# Altium integrated library Lattice CPLD ispMACH.IntLib: 663 symbols (part 9 of 48)
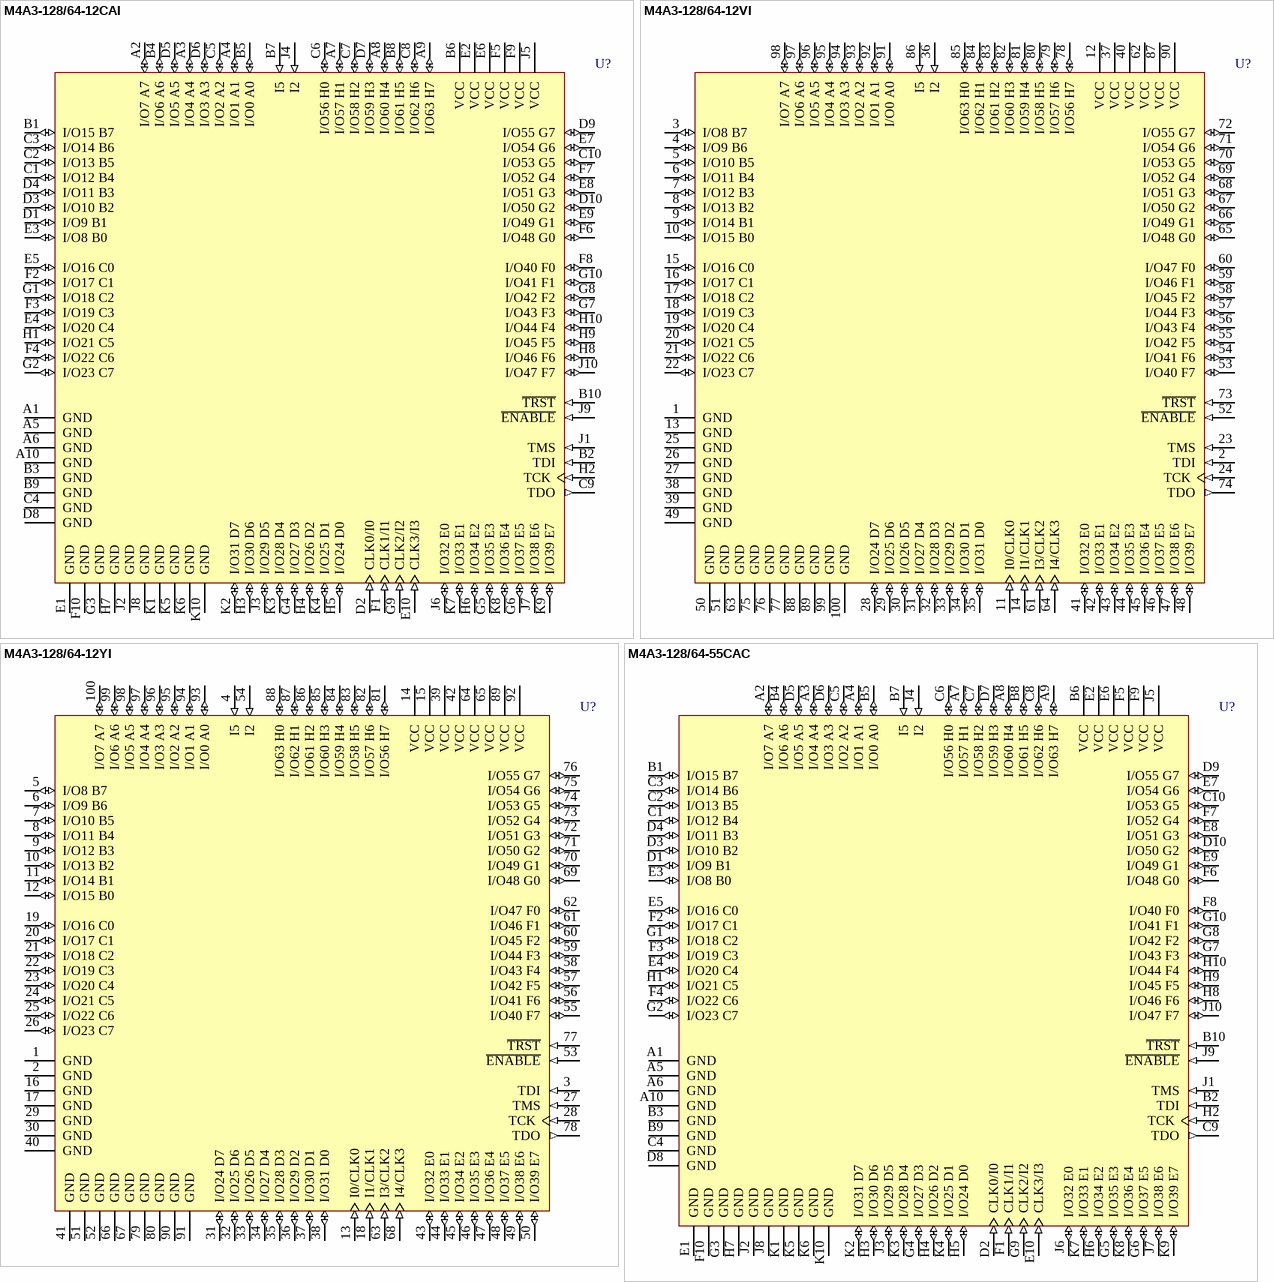
[diagram p314: symbols M4A3-128/64-12CAI to M4A3-128/64-55CAC]

## M4A3-128/64-12CAI
designator U?
High-Performance EE CMOS In-System Programmable Logic; Published: 17-Jul-2002; LatestRevisionDate: 13-Apr-2006; LatestRevisionNote: IPC-7351 Footprint Added.; DatasheetVersion: Feb-2001; PackageVersion: pkg_32, Aug-2005; PackageReference: CaBGA100; Publisher: Altium Limited; PackageDescription: 100-Ball Chip Array Ball Grid Array (caBGA100); ComponentLink1Description: Manufacturer Link; ComponentLink1URL: http://www.latticesemi.com/products/mature/index.cfm; ComponentLink2Description: Datasheet; ComponentLink2URL: http://www.latticesemi.com/account/_download.cfm?AMID=1344
footprint caBGA100 (BGA, 100-Leads, Body 10x10mm, Pitch 0.8mm)
3D model M4A3-CaBGA100 (100-Ball Chip Array Ball Grid Array (caBGA100))
pins: A1 GND (power), A2 I/O7 A7 (io), A3 I/O4 A4 (io), A4 I/O1 A1 (io), A5 GND (power), A6 GND (power), A7 I/O57 H1 (io), A8 I/O60 H4 (io), A9 I/O63 H7 (io), A10 GND (power), B1 I/O15 B7 (io), B2 TDI (in), B3 GND (power), B4 I/O6 A6 (io), B5 I/O0 A0 (io), B6 VCC (power), B7 I5 (in), B8 I/O61 H5 (io), B9 GND (power), B10 ~{TRST} (in), C1 I/O12 B4 (io), C2 I/O13 B5 (io), C3 I/O14 B6 (io), C4 GND (power), C5 I/O2 A2 (io), C6 I/O56 H0 (io), C7 I/O58 H2 (io), C8 I/O62 H6 (io), C9 TDO (out), C10 I/O53 G5 (io), D1 I/O9 B1 (io), D2 CLK0/I0 (in), D3 I/O10 B2 (io), D4 I/O11 B3 (io), D5 I/O5 A5 (io), D6 I/O3 A3 (io), D7 I/O59 H3 (io), D8 GND (power), D9 I/O55 G7 (io), D10 I/O50 G2 (io), E1 GND (power), E2 VCC (power), E3 I/O8 B0 (io), E4 I/O20 C4 (io), E5 I/O16 C0 (io), E6 VCC (power), E7 I/O54 G6 (io), E8 I/O51 G3 (io), E9 I/O49 G1 (io), E10 CLK3/I3 (in), F1 CLK1/I1 (in), F2 I/O17 C1 (io), F3 I/O19 C3 (io), F4 I/O22 C6 (io), F5 VCC (power), F6 I/O48 G0 (io), F7 I/O52 G4 (io), F8 I/O40 F0 (io), F9 VCC (power), F10 GND (power), G1 I/O18 C2 (io), G2 I/O23 C7 (io), G3 GND (power), G4 I/O27 D3 (io), G5 I/O35 E3 (io), G6 I/O37 E5 (io), G7 I/O43 F3 (io), G8 I/O42 F2 (io), G9 CLK2/I2 (in), G10 I/O41 F1 (io), H1 I/O21 C5 (io), H2 TCK (in), H3 I/O30 D6 (io), H4 I/O26 D2 (io), H5 I/O24 D0 (io), H6 I/O34 E2 (io), H7 GND (power), H8 I/O46 F6 (io), H9 I/O45 F5 (io), H10 I/O44 F4 (io), J1 TMS (in), J2 GND (power), J3 I/O29 D5 (io), J4 I2 (in), J5 VCC (power), J6 I/O32 E0 (io), J7 I/O38 E6 (io), J8 GND (power), J9 ~{ENABLE} (in), J10 I/O47 F7 (io), K1 GND (power), K2 I/O31 D7 (io), K3 I/O28 D4 (io), K4 I/O25 D1 (io), K5 GND (power), K6 GND (power), K7 I/O33 E1 (io), K8 I/O36 E4 (io), K9 I/O39 E7 (io), K10 GND (power)

## M4A3-128/64-12VI
designator U?
High-Performance EE CMOS In-System Programmable Logic; Published: 17-Jul-2002; LatestRevisionDate: 13-Apr-2006; LatestRevisionNote: IPC-7351 Footprint Added.; DatasheetVersion: Feb-2001; PackageVersion: pkg_32, Aug-2005; PackageReference: TQFP100; Publisher: Altium Limited; PackageDescription: 100-Pin Thin Quad Flat Pack (TQFP100); Code_JEDEC: MS-026-BED; ComponentLink1Description: Manufacturer Link; ComponentLink1URL: http://www.latticesemi.com/products/mature/index.cfm; ComponentLink2Description: Datasheet; ComponentLink2URL: http://www.latticesemi.com/account/_download.cfm?AMID=1344
footprint TQFP100_N (Thin QFP, 100-Leads, Body 14x14mm, Pitch 0.5mm, IPC Medium Density)
footprint TQFP100_L (Thin QFP, 100-Leads, Body 14x14mm, Pitch 0.5mm, IPC High Density)
footprint TQFP100_M (Thin QFP, 100-Leads, Body 14x14mm, Pitch 0.5mm, IPC Low Density)
3D model M4A3-TQFP100 (100-Pin Thin Quad Flat Pack (TQFP100))
pins: 1 GND (power), 2 TDI (in), 3 I/O8 B7 (io), 4 I/O9 B6 (io), 5 I/O10 B5 (io), 6 I/O11 B4 (io), 7 I/O12 B3 (io), 8 I/O13 B2 (io), 9 I/O14 B1 (io), 10 I/O15 B0 (io), 11 I0/CLK0 (in), 12 VCC (power), 13 GND (power), 14 I1/CLK1 (in), 15 I/O16 C0 (io), 16 I/O17 C1 (io), 17 I/O18 C2 (io), 18 I/O19 C3 (io), 19 I/O20 C4 (io), 20 I/O21 C5 (io), 21 I/O22 C6 (io), 22 I/O23 C7 (io), 23 TMS (in), 24 TCK (in), 25 GND (power), 26 GND (power), 27 GND (power), 28 I/O24 D7 (io), 29 I/O25 D6 (io), 30 I/O26 D5 (io), 31 I/O27 D4 (io), 32 I/O28 D3 (io), 33 I/O29 D2 (io), 34 I/O30 D1 (io), 35 I/O31 D0 (io), 36 I2 (in), 37 VCC (power), 38 GND (power), 39 GND (power), 40 VCC (power), 41 I/O32 E0 (io), 42 I/O33 E1 (io), 43 I/O34 E2 (io), 44 I/O35 E3 (io), 45 I/O36 E4 (io), 46 I/O37 E5 (io), 47 I/O38 E6 (io), 48 I/O39 E7 (io), 49 GND (power), 50 GND (power), 51 GND (power), 52 ~{ENABLE} (in), 53 I/O40 F7 (io), 54 I/O41 F6 (io), 55 I/O42 F5 (io), 56 I/O43 F4 (io), 57 I/O44 F3 (io), 58 I/O45 F2 (io), 59 I/O46 F1 (io), 60 I/O47 F0 (io), 61 I3/CLK2 (in), 62 VCC (power), 63 GND (power), 64 I4/CLK3 (in), 65 I/O48 G0 (io), 66 I/O49 G1 (io), 67 I/O50 G2 (io), 68 I/O51 G3 (io), 69 I/O52 G4 (io), 70 I/O53 G5 (io), 71 I/O54 G6 (io), 72 I/O55 G7 (io), 73 ~{TRST} (in), 74 TDO (out), 75 GND (power), 76 GND (power), 77 GND (power), 78 I/O56 H7 (io), 79 I/O57 H6 (io), 80 I/O58 H5 (io), 81 I/O59 H4 (io), 82 I/O60 H3 (io), 83 I/O61 H2 (io), 84 I/O62 H1 (io), 85 I/O63 H0 (io), 86 I5 (in), 87 VCC (power), 88 GND (power), 89 GND (power), 90 VCC (power), 91 I/O0 A0 (io), 92 I/O1 A1 (io), 93 I/O2 A2 (io), 94 I/O3 A3 (io), 95 I/O4 A4 (io), 96 I/O5 A5 (io), 97 I/O6 A6 (io), 98 I/O7 A7 (io), 99 GND (power), 100 GND (power)

## M4A3-128/64-12YI
designator U?
High-Performance EE CMOS In-System Programmable Logic; Published: 17-Jul-2002; LatestRevisionDate: 13-Apr-2006; LatestRevisionNote: IPC-7351 Footprint Added.; DatasheetVersion: Feb-2001; PackageVersion: pkg_32, Aug-2005; PackageReference: PQFP100; Publisher: Altium Limited; PackageDescription: 100-Pin Quad Flat Pack Rectangular 0.65 mm Pitch; Code_IPC: QFP65P1720X2320-100; ComponentLink1Description: Manufacturer Link; ComponentLink1URL: http://www.latticesemi.com/products/mature/index.cfm; ComponentLink2Description: Datasheet; ComponentLink2URL: http://www.latticesemi.com/account/_download.cfm?AMID=1344
footprint PQFP100_N (QFP, 100-Leads, Body 20x14mm, Pitch 0.65mm, IPC Medium Density)
footprint PQFP100_L (QFP, 100-Leads, Body 20x14mm, Pitch 0.65mm, IPC High Density)
footprint PQFP100_M (QFP, 100-Leads, Body 20x14mm, Pitch 0.65mm, IPC Low Density)
3D model PQFP-100 (100-Pin Quad Flat Pack Rectangular 0.65 mm Pitch)
pins: 1 GND (power), 2 GND (power), 3 TDI (in), 4 I5 (in), 5 I/O8 B7 (io), 6 I/O9 B6 (io), 7 I/O10 B5 (io), 8 I/O11 B4 (io), 9 I/O12 B3 (io), 10 I/O13 B2 (io), 11 I/O14 B1 (io), 12 I/O15 B0 (io), 13 I0/CLK0 (in), 14 VCC (power), 15 VCC (power), 16 GND (power), 17 GND (power), 18 I1/CLK1 (in), 19 I/O16 C0 (io), 20 I/O17 C1 (io), 21 I/O18 C2 (io), 22 I/O19 C3 (io), 23 I/O20 C4 (io), 24 I/O21 C5 (io), 25 I/O22 C6 (io), 26 I/O23 C7 (io), 27 TMS (in), 28 TCK (in), 29 GND (power), 30 GND (power), 31 I/O24 D7 (io), 32 I/O25 D6 (io), 33 I/O26 D5 (io), 34 I/O27 D4 (io), 35 I/O28 D3 (io), 36 I/O29 D2 (io), 37 I/O30 D1 (io), 38 I/O31 D0 (io), 39 VCC (power), 40 GND (power), 41 GND (power), 42 VCC (power), 43 I/O32 E0 (io), 44 I/O33 E1 (io), 45 I/O34 E2 (io), 46 I/O35 E3 (io), 47 I/O36 E4 (io), 48 I/O37 E5 (io), 49 I/O38 E6 (io), 50 I/O39 E7 (io), 51 GND (power), 52 GND (power), 53 ~{ENABLE} (in), 54 I2 (in), 55 I/O40 F7 (io), 56 I/O41 F6 (io), 57 I/O42 F5 (io), 58 I/O43 F4 (io), 59 I/O44 F3 (io), 60 I/O45 F2 (io), 61 I/O46 F1 (io), 62 I/O47 F0 (io), 63 I3/CLK2 (in), 64 VCC (power), 65 VCC (power), 66 GND (power), 67 GND (power), 68 I4/CLK3 (in), 69 I/O48 G0 (io), 70 I/O49 G1 (io), 71 I/O50 G2 (io), 72 I/O51 G3 (io), 73 I/O52 G4 (io), 74 I/O53 G5 (io), 75 I/O54 G6 (io), 76 I/O55 G7 (io), 77 ~{TRST} (in), 78 TDO (out), 79 GND (power), 80 GND (power), 81 I/O56 H7 (io), 82 I/O57 H6 (io), 83 I/O58 H5 (io), 84 I/O59 H4 (io), 85 I/O60 H3 (io), 86 I/O61 H2 (io), 87 I/O62 H1 (io), 88 I/O63 H0 (io), 89 VCC (power), 90 GND (power), 91 GND (power), 92 VCC (power), 93 I/O0 A0 (io), 94 I/O1 A1 (io), 95 I/O2 A2 (io), 96 I/O3 A3 (io), 97 I/O4 A4 (io), 98 I/O5 A5 (io), 99 I/O6 A6 (io), 100 I/O7 A7 (io)

## M4A3-128/64-55CAC
designator U?
High-Performance EE CMOS In-System Programmable Logic; Published: 17-Jul-2002; LatestRevisionDate: 13-Apr-2006; LatestRevisionNote: IPC-7351 Footprint Added.; DatasheetVersion: Feb-2001; PackageVersion: pkg_32, Aug-2005; PackageReference: CaBGA100; Publisher: Altium Limited; PackageDescription: 100-Ball Chip Array Ball Grid Array (caBGA100); ComponentLink1Description: Manufacturer Link; ComponentLink1URL: http://www.latticesemi.com/products/mature/index.cfm; ComponentLink2Description: Datasheet; ComponentLink2URL: http://www.latticesemi.com/account/_download.cfm?AMID=1344
footprint caBGA100 (BGA, 100-Leads, Body 10x10mm, Pitch 0.8mm)
3D model M4A3-CaBGA100 (100-Ball Chip Array Ball Grid Array (caBGA100))
pins: A1 GND (power), A2 I/O7 A7 (io), A3 I/O4 A4 (io), A4 I/O1 A1 (io), A5 GND (power), A6 GND (power), A7 I/O57 H1 (io), A8 I/O60 H4 (io), A9 I/O63 H7 (io), A10 GND (power), B1 I/O15 B7 (io), B2 TDI (in), B3 GND (power), B4 I/O6 A6 (io), B5 I/O0 A0 (io), B6 VCC (power), B7 I5 (in), B8 I/O61 H5 (io), B9 GND (power), B10 ~{TRST} (in), C1 I/O12 B4 (io), C2 I/O13 B5 (io), C3 I/O14 B6 (io), C4 GND (power), C5 I/O2 A2 (io), C6 I/O56 H0 (io), C7 I/O58 H2 (io), C8 I/O62 H6 (io), C9 TDO (out), C10 I/O53 G5 (io), D1 I/O9 B1 (io), D2 CLK0/I0 (in), D3 I/O10 B2 (io), D4 I/O11 B3 (io), D5 I/O5 A5 (io), D6 I/O3 A3 (io), D7 I/O59 H3 (io), D8 GND (power), D9 I/O55 G7 (io), D10 I/O50 G2 (io), E1 GND (power), E2 VCC (power), E3 I/O8 B0 (io), E4 I/O20 C4 (io), E5 I/O16 C0 (io), E6 VCC (power), E7 I/O54 G6 (io), E8 I/O51 G3 (io), E9 I/O49 G1 (io), E10 CLK3/I3 (in), F1 CLK1/I1 (in), F2 I/O17 C1 (io), F3 I/O19 C3 (io), F4 I/O22 C6 (io), F5 VCC (power), F6 I/O48 G0 (io), F7 I/O52 G4 (io), F8 I/O40 F0 (io), F9 VCC (power), F10 GND (power), G1 I/O18 C2 (io), G2 I/O23 C7 (io), G3 GND (power), G4 I/O27 D3 (io), G5 I/O35 E3 (io), G6 I/O37 E5 (io), G7 I/O43 F3 (io), G8 I/O42 F2 (io), G9 CLK2/I2 (in), G10 I/O41 F1 (io), H1 I/O21 C5 (io), H2 TCK (in), H3 I/O30 D6 (io), H4 I/O26 D2 (io), H5 I/O24 D0 (io), H6 I/O34 E2 (io), H7 GND (power), H8 I/O46 F6 (io), H9 I/O45 F5 (io), H10 I/O44 F4 (io), J1 TMS (in), J2 GND (power), J3 I/O29 D5 (io), J4 I2 (in), J5 VCC (power), J6 I/O32 E0 (io), J7 I/O38 E6 (io), J8 GND (power), J9 ~{ENABLE} (in), J10 I/O47 F7 (io), K1 GND (power), K2 I/O31 D7 (io), K3 I/O28 D4 (io), K4 I/O25 D1 (io), K5 GND (power), K6 GND (power), K7 I/O33 E1 (io), K8 I/O36 E4 (io), K9 I/O39 E7 (io), K10 GND (power)

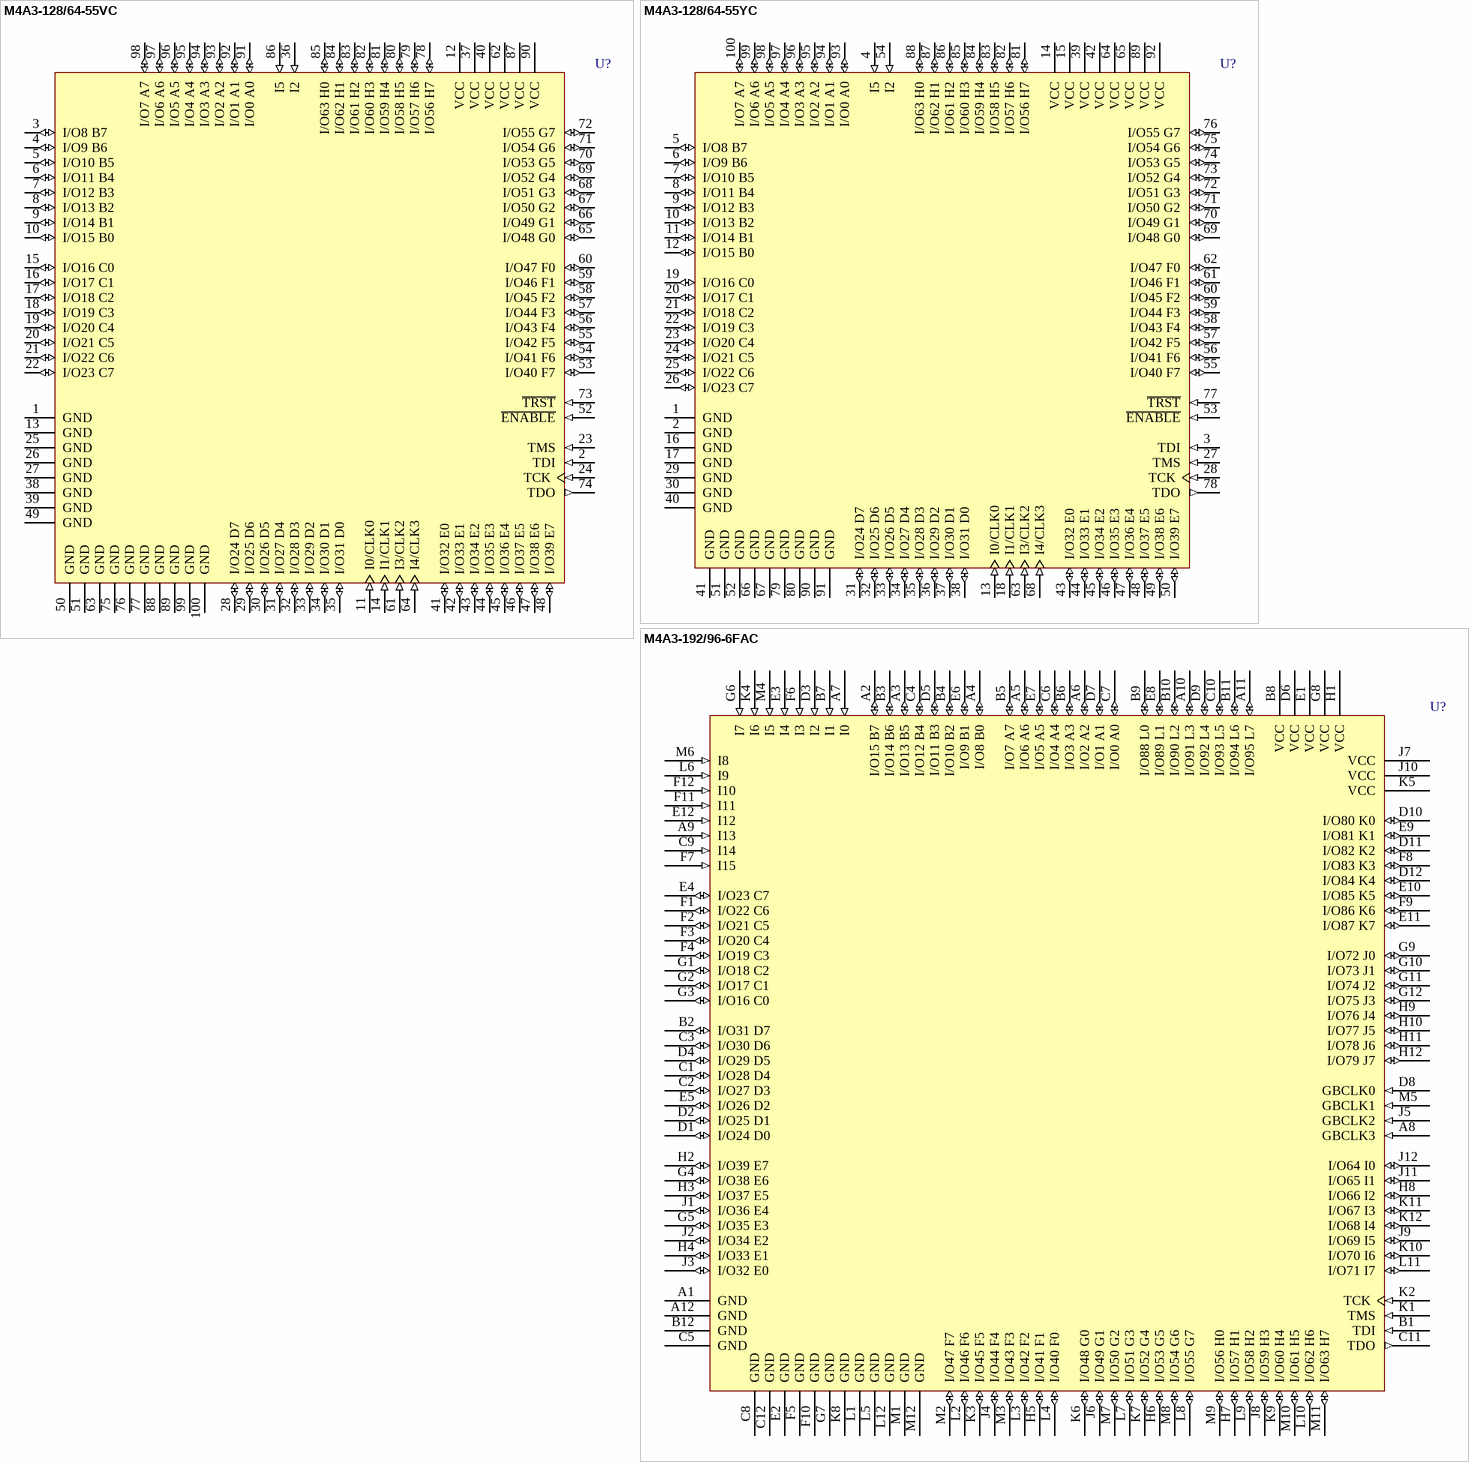
[diagram p36: symbols M4A3-128/64-55VC to M4A3-192/96-6FAC]

## M4A3-128/64-55VC
designator U?
High-Performance EE CMOS In-System Programmable Logic; Published: 17-Jul-2002; LatestRevisionDate: 13-Apr-2006; LatestRevisionNote: IPC-7351 Footprint Added.; DatasheetVersion: Feb-2001; PackageVersion: pkg_32, Aug-2005; PackageReference: TQFP100; Publisher: Altium Limited; PackageDescription: 100-Pin Thin Quad Flat Pack (TQFP100); Code_JEDEC: MS-026-BED; ComponentLink1Description: Manufacturer Link; ComponentLink1URL: http://www.latticesemi.com/products/mature/index.cfm; ComponentLink2Description: Datasheet; ComponentLink2URL: http://www.latticesemi.com/account/_download.cfm?AMID=1344
footprint TQFP100_N (Thin QFP, 100-Leads, Body 14x14mm, Pitch 0.5mm, IPC Medium Density)
footprint TQFP100_L (Thin QFP, 100-Leads, Body 14x14mm, Pitch 0.5mm, IPC High Density)
footprint TQFP100_M (Thin QFP, 100-Leads, Body 14x14mm, Pitch 0.5mm, IPC Low Density)
3D model M4A3-TQFP100 (100-Pin Thin Quad Flat Pack (TQFP100))
pins: 1 GND (power), 2 TDI (in), 3 I/O8 B7 (io), 4 I/O9 B6 (io), 5 I/O10 B5 (io), 6 I/O11 B4 (io), 7 I/O12 B3 (io), 8 I/O13 B2 (io), 9 I/O14 B1 (io), 10 I/O15 B0 (io), 11 I0/CLK0 (in), 12 VCC (power), 13 GND (power), 14 I1/CLK1 (in), 15 I/O16 C0 (io), 16 I/O17 C1 (io), 17 I/O18 C2 (io), 18 I/O19 C3 (io), 19 I/O20 C4 (io), 20 I/O21 C5 (io), 21 I/O22 C6 (io), 22 I/O23 C7 (io), 23 TMS (in), 24 TCK (in), 25 GND (power), 26 GND (power), 27 GND (power), 28 I/O24 D7 (io), 29 I/O25 D6 (io), 30 I/O26 D5 (io), 31 I/O27 D4 (io), 32 I/O28 D3 (io), 33 I/O29 D2 (io), 34 I/O30 D1 (io), 35 I/O31 D0 (io), 36 I2 (in), 37 VCC (power), 38 GND (power), 39 GND (power), 40 VCC (power), 41 I/O32 E0 (io), 42 I/O33 E1 (io), 43 I/O34 E2 (io), 44 I/O35 E3 (io), 45 I/O36 E4 (io), 46 I/O37 E5 (io), 47 I/O38 E6 (io), 48 I/O39 E7 (io), 49 GND (power), 50 GND (power), 51 GND (power), 52 ~{ENABLE} (in), 53 I/O40 F7 (io), 54 I/O41 F6 (io), 55 I/O42 F5 (io), 56 I/O43 F4 (io), 57 I/O44 F3 (io), 58 I/O45 F2 (io), 59 I/O46 F1 (io), 60 I/O47 F0 (io), 61 I3/CLK2 (in), 62 VCC (power), 63 GND (power), 64 I4/CLK3 (in), 65 I/O48 G0 (io), 66 I/O49 G1 (io), 67 I/O50 G2 (io), 68 I/O51 G3 (io), 69 I/O52 G4 (io), 70 I/O53 G5 (io), 71 I/O54 G6 (io), 72 I/O55 G7 (io), 73 ~{TRST} (in), 74 TDO (out), 75 GND (power), 76 GND (power), 77 GND (power), 78 I/O56 H7 (io), 79 I/O57 H6 (io), 80 I/O58 H5 (io), 81 I/O59 H4 (io), 82 I/O60 H3 (io), 83 I/O61 H2 (io), 84 I/O62 H1 (io), 85 I/O63 H0 (io), 86 I5 (in), 87 VCC (power), 88 GND (power), 89 GND (power), 90 VCC (power), 91 I/O0 A0 (io), 92 I/O1 A1 (io), 93 I/O2 A2 (io), 94 I/O3 A3 (io), 95 I/O4 A4 (io), 96 I/O5 A5 (io), 97 I/O6 A6 (io), 98 I/O7 A7 (io), 99 GND (power), 100 GND (power)

## M4A3-128/64-55YC
designator U?
High-Performance EE CMOS In-System Programmable Logic; Published: 17-Jul-2002; LatestRevisionDate: 13-Apr-2006; LatestRevisionNote: IPC-7351 Footprint Added.; DatasheetVersion: Feb-2001; PackageVersion: pkg_32, Aug-2005; PackageReference: PQFP100; Publisher: Altium Limited; PackageDescription: 100-Pin Quad Flat Pack Rectangular 0.65 mm Pitch; Code_IPC: QFP65P1720X2320-100; ComponentLink1Description: Manufacturer Link; ComponentLink1URL: http://www.latticesemi.com/products/mature/index.cfm; ComponentLink2Description: Datasheet; ComponentLink2URL: http://www.latticesemi.com/account/_download.cfm?AMID=1344
footprint PQFP100_N (QFP, 100-Leads, Body 20x14mm, Pitch 0.65mm, IPC Medium Density)
footprint PQFP100_L (QFP, 100-Leads, Body 20x14mm, Pitch 0.65mm, IPC High Density)
footprint PQFP100_M (QFP, 100-Leads, Body 20x14mm, Pitch 0.65mm, IPC Low Density)
3D model PQFP-100 (100-Pin Quad Flat Pack Rectangular 0.65 mm Pitch)
pins: 1 GND (power), 2 GND (power), 3 TDI (in), 4 I5 (in), 5 I/O8 B7 (io), 6 I/O9 B6 (io), 7 I/O10 B5 (io), 8 I/O11 B4 (io), 9 I/O12 B3 (io), 10 I/O13 B2 (io), 11 I/O14 B1 (io), 12 I/O15 B0 (io), 13 I0/CLK0 (in), 14 VCC (power), 15 VCC (power), 16 GND (power), 17 GND (power), 18 I1/CLK1 (in), 19 I/O16 C0 (io), 20 I/O17 C1 (io), 21 I/O18 C2 (io), 22 I/O19 C3 (io), 23 I/O20 C4 (io), 24 I/O21 C5 (io), 25 I/O22 C6 (io), 26 I/O23 C7 (io), 27 TMS (in), 28 TCK (in), 29 GND (power), 30 GND (power), 31 I/O24 D7 (io), 32 I/O25 D6 (io), 33 I/O26 D5 (io), 34 I/O27 D4 (io), 35 I/O28 D3 (io), 36 I/O29 D2 (io), 37 I/O30 D1 (io), 38 I/O31 D0 (io), 39 VCC (power), 40 GND (power), 41 GND (power), 42 VCC (power), 43 I/O32 E0 (io), 44 I/O33 E1 (io), 45 I/O34 E2 (io), 46 I/O35 E3 (io), 47 I/O36 E4 (io), 48 I/O37 E5 (io), 49 I/O38 E6 (io), 50 I/O39 E7 (io), 51 GND (power), 52 GND (power), 53 ~{ENABLE} (in), 54 I2 (in), 55 I/O40 F7 (io), 56 I/O41 F6 (io), 57 I/O42 F5 (io), 58 I/O43 F4 (io), 59 I/O44 F3 (io), 60 I/O45 F2 (io), 61 I/O46 F1 (io), 62 I/O47 F0 (io), 63 I3/CLK2 (in), 64 VCC (power), 65 VCC (power), 66 GND (power), 67 GND (power), 68 I4/CLK3 (in), 69 I/O48 G0 (io), 70 I/O49 G1 (io), 71 I/O50 G2 (io), 72 I/O51 G3 (io), 73 I/O52 G4 (io), 74 I/O53 G5 (io), 75 I/O54 G6 (io), 76 I/O55 G7 (io), 77 ~{TRST} (in), 78 TDO (out), 79 GND (power), 80 GND (power), 81 I/O56 H7 (io), 82 I/O57 H6 (io), 83 I/O58 H5 (io), 84 I/O59 H4 (io), 85 I/O60 H3 (io), 86 I/O61 H2 (io), 87 I/O62 H1 (io), 88 I/O63 H0 (io), 89 VCC (power), 90 GND (power), 91 GND (power), 92 VCC (power), 93 I/O0 A0 (io), 94 I/O1 A1 (io), 95 I/O2 A2 (io), 96 I/O3 A3 (io), 97 I/O4 A4 (io), 98 I/O5 A5 (io), 99 I/O6 A6 (io), 100 I/O7 A7 (io)

## M4A3-192/96-6FAC
designator U?
High-Performance EE CMOS In-System Programmable Logic; Published: 17-Jul-2002; LatestRevisionDate: 13-Apr-2006; LatestRevisionNote: IPC-7351 Footprint Added.; DatasheetVersion: Feb-2001; PackageVersion: pkg_32, Aug-2005; PackageReference: fpBGA144; Publisher: Altium Limited; PackageDescription: 144-Ball Fine Pitch Ball Grid Array (fpBGA144); Code_IPC: BGA100P12X12-144; ComponentLink1Description: Manufacturer Link; ComponentLink1URL: http://www.latticesemi.com/products/mature/index.cfm; ComponentLink2Description: Datasheet; ComponentLink2URL: http://www.latticesemi.com/account/_download.cfm?AMID=1344
footprint fpBGA144 (BGA, 144-Leads, Body 13x13mm, Pitch 1mm)
3D model M4A3-fpBGA144 (144-Ball Fine Pitch Ball Grid Array (fpBGA144))
pins: A1 GND (power), A2 I/O15 B7 (io), A3 I/O13 B5 (io), A4 I/O8 B0 (io), A5 I/O6 A6 (io), A6 I/O2 A2 (io), A7 I0 (in), A8 GBCLK3 (in), A9 I13 (in), A10 I/O91 L3 (io), A11 I/O95 L7 (io), A12 GND (power), B1 TDI (in), B2 I/O31 D7 (io), B3 I/O14 B6 (io), B4 I/O10 B2 (io), B5 I/O7 A7 (io), B6 I/O3 A3 (io), B7 I1 (in), B8 VCC (power), B9 I/O88 L0 (io), B10 I/O90 L2 (io), B11 I/O94 L6 (io), B12 GND (power), C1 I/O28 D4 (io), C2 I/O27 D3 (io), C3 I/O30 D6 (io), C4 I/O12 B4 (io), C5 GND (power), C6 I/O4 A4 (io), C7 I/O0 A0 (io), C8 GND (power), C9 I14 (in), C10 I/O93 L5 (io), C11 TDO (out), C12 GND (power), D1 I/O24 D0 (io), D2 I/O25 D1 (io), D3 I2 (in), D4 I/O29 D5 (io), D5 I/O11 B3 (io), D6 VCC (power), D7 I/O1 A1 (io), D8 GBCLK0 (in), D9 I/O92 L4 (io), D10 I/O80 K0 (io), D11 I/O82 K2 (io), D12 I/O84 K4 (io), E1 VCC (power), E2 GND (power), E3 I4 (in), E4 I/O23 C7 (io), E5 I/O26 D2 (io), E6 I/O9 B1 (io), E7 I/O5 A5 (io), E8 I/O89 L1 (io), E9 I/O81 K1 (io), E10 I/O85 K5 (io), E11 I/O87 K7 (io), E12 I12 (in), F1 I/O22 C6 (io), F2 I/O21 C5 (io), F3 I/O20 C4 (io), F4 I/O19 C3 (io), F5 GND (power), F6 I3 (in), F7 I15 (in), F8 I/O83 K3 (io), F9 I/O86 K6 (io), F10 GND (power), F11 I11 (in), F12 I10 (in), G1 I/O18 C2 (io), G2 I/O17 C1 (io), G3 I/O16 C0 (io), G4 I/O38 E6 (io), G5 I/O35 E3 (io), G6 I7 (in), G7 GND (power), G8 VCC (power), G9 I/O72 J0 (io), G10 I/O73 J1 (io), G11 I/O74 J2 (io), G12 I/O75 J3 (io), H1 VCC (power), H2 I/O39 E7 (io), H3 I/O37 E5 (io), H4 I/O33 E1 (io), H5 I/O41 F1 (io), H6 I/O53 G5 (io), H7 I/O57 H1 (io), H8 I/O66 I2 (io), H9 I/O76 J4 (io), H10 I/O77 J5 (io), H11 I/O78 J6 (io), H12 I/O79 J7 (io), J1 I/O36 E4 (io), J2 I/O34 E2 (io), J3 I/O32 E0 (io), J4 I/O44 F4 (io), J5 GBCLK2 (in), J6 I/O49 G1 (io), J7 VCC (power), J8 I/O59 H3 (io), J9 I/O69 I5 (io), J10 VCC (power), J11 I/O65 I1 (io), J12 I/O64 I0 (io), K1 TMS (in), K2 TCK (in), K3 I/O45 F5 (io), K4 I6 (in), K5 VCC (power), K6 I/O48 G0 (io), K7 I/O52 G4 (io), K8 GND (power), K9 I/O60 H4 (io), K10 I/O70 I6 (io), K11 I/O67 I3 (io), K12 I/O68 I4 (io), L1 GND (power), L2 I/O46 F6 (io), L3 I/O42 F2 (io), L4 I/O40 F0 (io), L5 GND (power), L6 I9 (in), L7 I/O51 G3 (io), L8 I/O55 G7 (io), L9 I/O58 H2 (io), L10 I/O62 H6 (io), L11 I/O71 I7 (io), L12 GND (power), M1 GND (power), M2 I/O47 F7 (io), M3 I/O43 F3 (io), M4 I5 (in), M5 GBCLK1 (in), M6 I8 (in), M7 I/O50 G2 (io), M8 I/O54 G6 (io), M9 I/O56 H0 (io), M10 I/O61 H5 (io), M11 I/O63 H7 (io), M12 GND (power)

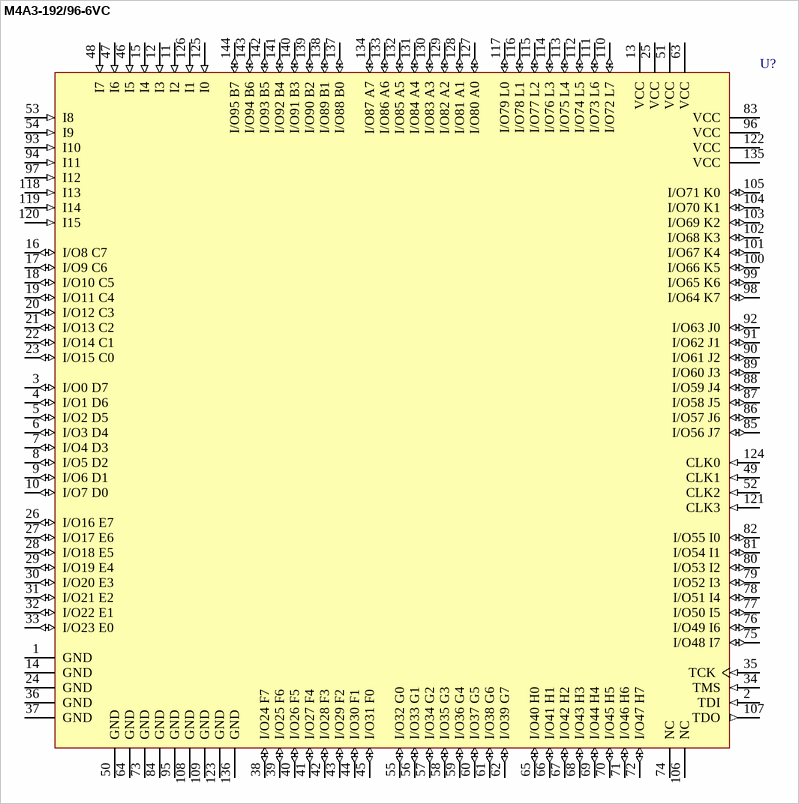
[diagram p37: symbol M4A3-192/96-6VC]

## M4A3-192/96-6VC
designator U?
High-Performance EE CMOS In-System Programmable Logic; Published: 17-Jul-2002; LatestRevisionDate: 13-Apr-2006; LatestRevisionNote: IPC-7351 Footprint Added.; DatasheetVersion: Feb-2001; PackageVersion: pkg_32, Aug-2005; PackageReference: TQFP144; Publisher: Altium Limited; PackageDescription: 144-Pin Thin Quad Flat Pack (TQFP144); Code_JEDEC: MS-026-BFB; ComponentLink1Description: Manufacturer Link; ComponentLink1URL: http://www.latticesemi.com/products/mature/index.cfm; ComponentLink2Description: Datasheet; ComponentLink2URL: http://www.latticesemi.com/account/_download.cfm?AMID=1344
footprint TQFP144_N (Thin QFP, 144-Leads, Body 20x20mm, Pitch 0.5mm, IPC Medium Density)
footprint TQFP144_L (Thin QFP, 144-Leads, Body 20x20mm, Pitch 0.5mm, IPC High Density)
footprint TQFP144_M (Thin QFP, 144-Leads, Body 20x20mm, Pitch 0.5mm, IPC Low Density)
3D model M4A3-TQFP144 (144-Pin Thin Quad Flat Pack (TQFP144))
pins: 1 GND (power), 2 TDI (in), 3 I/O0 D7 (io), 4 I/O1 D6 (io), 5 I/O2 D5 (io), 6 I/O3 D4 (io), 7 I/O4 D3 (io), 8 I/O5 D2 (io), 9 I/O6 D1 (io), 10 I/O7 D0 (io), 11 I2 (in), 12 I3 (in), 13 VCC (power), 14 GND (power), 15 I4 (in), 16 I/O8 C7 (io), 17 I/O9 C6 (io), 18 I/O10 C5 (io), 19 I/O11 C4 (io), 20 I/O12 C3 (io), 21 I/O13 C2 (io), 22 I/O14 C1 (io), 23 I/O15 C0 (io), 24 GND (power), 25 VCC (power), 26 I/O16 E7 (io), 27 I/O17 E6 (io), 28 I/O18 E5 (io), 29 I/O19 E4 (io), 30 I/O20 E3 (io), 31 I/O21 E2 (io), 32 I/O22 E1 (io), 33 I/O23 E0 (io), 34 TMS (in), 35 TCK (in), 36 GND (power), 37 GND (power), 38 I/O24 F7 (io), 39 I/O25 F6 (io), 40 I/O26 F5 (io), 41 I/O27 F4 (io), 42 I/O28 F3 (io), 43 I/O29 F2 (io), 44 I/O30 F1 (io), 45 I/O31 F0 (io), 46 I5 (in), 47 I6 (in), 48 I7 (in), 49 CLK1 (in), 50 GND (power), 51 VCC (power), 52 CLK2 (in), 53 I8 (in), 54 I9 (in), 55 I/O32 G0 (io), 56 I/O33 G1 (io), 57 I/O34 G2 (io), 58 I/O35 G3 (io), 59 I/O36 G4 (io), 60 I/O37 G5 (io), 61 I/O38 G6 (io), 62 I/O39 G7 (io), 63 VCC (power), 64 GND (power), 65 I/O40 H0 (io), 66 I/O41 H1 (io), 67 I/O42 H2 (io), 68 I/O43 H3 (io), 69 I/O44 H4 (io), 70 I/O45 H5 (io), 71 I/O46 H6 (io), 72 I/O47 H7 (io), 73 GND (power), 74 NC, 75 I/O48 I7 (io), 76 I/O49 I6 (io), 77 I/O50 I5 (io), 78 I/O51 I4 (io), 79 I/O52 I3 (io), 80 I/O53 I2 (io), 81 I/O54 I1 (io), 82 I/O55 I0 (io), 83 VCC (power), 84 GND (power), 85 I/O56 J7 (io), 86 I/O57 J6 (io), 87 I/O58 J5 (io), 88 I/O59 J4 (io), 89 I/O60 J3 (io), 90 I/O61 J2 (io), 91 I/O62 J1 (io), 92 I/O63 J0 (io), 93 I10 (in), 94 I11 (in), 95 GND (power), 96 VCC (power), 97 I12 (in), 98 I/O64 K7 (io), 99 I/O65 K6 (io), 100 I/O66 K5 (io), 101 I/O67 K4 (io), 102 I/O68 K3 (io), 103 I/O69 K2 (io), 104 I/O70 K1 (io), 105 I/O71 K0 (io), 106 NC, 107 TDO (out), 108 GND (power), 109 GND (power), 110 I/O72 L7 (io), 111 I/O73 L6 (io), 112 I/O74 L5 (io), 113 I/O75 L4 (io), 114 I/O76 L3 (io), 115 I/O77 L2 (io), 116 I/O78 L1 (io), 117 I/O79 L0 (io), 118 I13 (in), 119 I14 (in), 120 I15 (in), 121 CLK3 (in), 122 VCC (power), 123 GND (power), 124 CLK0 (in), 125 I0 (in), 126 I1 (in), 127 I/O80 A0 (io), 128 I/O81 A1 (io), 129 I/O82 A2 (io), 130 I/O83 A3 (io), 131 I/O84 A4 (io), 132 I/O85 A5 (io), 133 I/O86 A6 (io), 134 I/O87 A7 (io), 135 VCC (power), 136 GND (power), 137 I/O88 B0 (io), 138 I/O89 B1 (io), 139 I/O90 B2 (io), 140 I/O91 B3 (io), 141 I/O92 B4 (io), 142 I/O93 B5 (io), 143 I/O94 B6 (io), 144 I/O95 B7 (io)

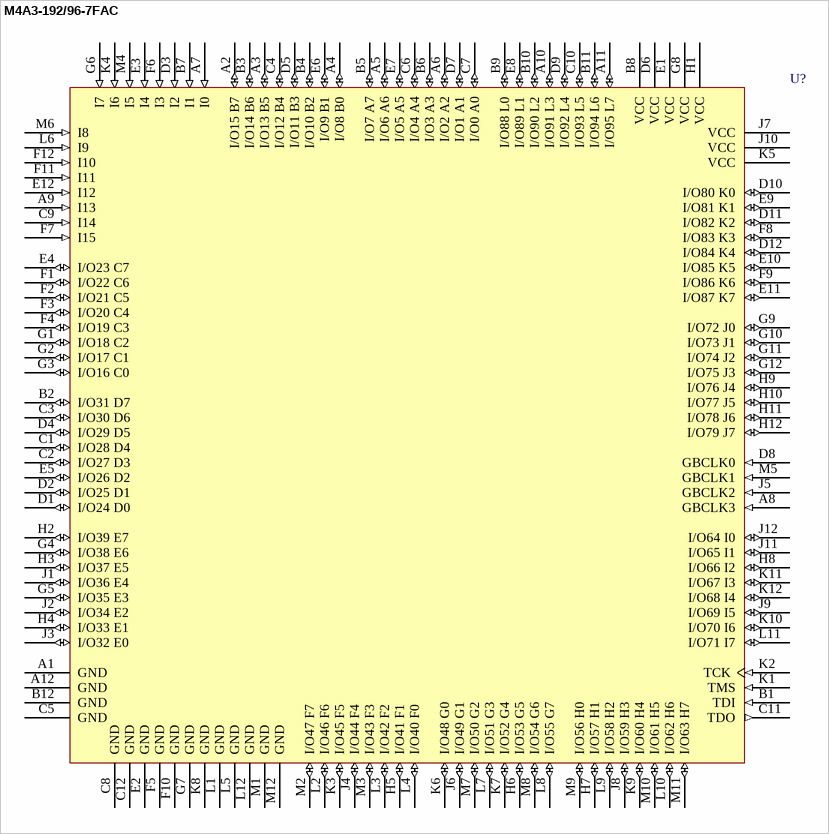
[diagram p38: symbol M4A3-192/96-7FAC]

## M4A3-192/96-7FAC
designator U?
High-Performance EE CMOS In-System Programmable Logic; Published: 17-Jul-2002; LatestRevisionDate: 13-Apr-2006; LatestRevisionNote: IPC-7351 Footprint Added.; DatasheetVersion: Feb-2001; PackageVersion: pkg_32, Aug-2005; PackageReference: fpBGA144; Publisher: Altium Limited; PackageDescription: 144-Ball Fine Pitch Ball Grid Array (fpBGA144); Code_IPC: BGA100P12X12-144; ComponentLink1Description: Manufacturer Link; ComponentLink1URL: http://www.latticesemi.com/products/mature/index.cfm; ComponentLink2Description: Datasheet; ComponentLink2URL: http://www.latticesemi.com/account/_download.cfm?AMID=1344
footprint fpBGA144 (BGA, 144-Leads, Body 13x13mm, Pitch 1mm)
3D model M4A3-fpBGA144 (144-Ball Fine Pitch Ball Grid Array (fpBGA144))
pins: A1 GND (power), A2 I/O15 B7 (io), A3 I/O13 B5 (io), A4 I/O8 B0 (io), A5 I/O6 A6 (io), A6 I/O2 A2 (io), A7 I0 (in), A8 GBCLK3 (in), A9 I13 (in), A10 I/O91 L3 (io), A11 I/O95 L7 (io), A12 GND (power), B1 TDI (in), B2 I/O31 D7 (io), B3 I/O14 B6 (io), B4 I/O10 B2 (io), B5 I/O7 A7 (io), B6 I/O3 A3 (io), B7 I1 (in), B8 VCC (power), B9 I/O88 L0 (io), B10 I/O90 L2 (io), B11 I/O94 L6 (io), B12 GND (power), C1 I/O28 D4 (io), C2 I/O27 D3 (io), C3 I/O30 D6 (io), C4 I/O12 B4 (io), C5 GND (power), C6 I/O4 A4 (io), C7 I/O0 A0 (io), C8 GND (power), C9 I14 (in), C10 I/O93 L5 (io), C11 TDO (out), C12 GND (power), D1 I/O24 D0 (io), D2 I/O25 D1 (io), D3 I2 (in), D4 I/O29 D5 (io), D5 I/O11 B3 (io), D6 VCC (power), D7 I/O1 A1 (io), D8 GBCLK0 (in), D9 I/O92 L4 (io), D10 I/O80 K0 (io), D11 I/O82 K2 (io), D12 I/O84 K4 (io), E1 VCC (power), E2 GND (power), E3 I4 (in), E4 I/O23 C7 (io), E5 I/O26 D2 (io), E6 I/O9 B1 (io), E7 I/O5 A5 (io), E8 I/O89 L1 (io), E9 I/O81 K1 (io), E10 I/O85 K5 (io), E11 I/O87 K7 (io), E12 I12 (in), F1 I/O22 C6 (io), F2 I/O21 C5 (io), F3 I/O20 C4 (io), F4 I/O19 C3 (io), F5 GND (power), F6 I3 (in), F7 I15 (in), F8 I/O83 K3 (io), F9 I/O86 K6 (io), F10 GND (power), F11 I11 (in), F12 I10 (in), G1 I/O18 C2 (io), G2 I/O17 C1 (io), G3 I/O16 C0 (io), G4 I/O38 E6 (io), G5 I/O35 E3 (io), G6 I7 (in), G7 GND (power), G8 VCC (power), G9 I/O72 J0 (io), G10 I/O73 J1 (io), G11 I/O74 J2 (io), G12 I/O75 J3 (io), H1 VCC (power), H2 I/O39 E7 (io), H3 I/O37 E5 (io), H4 I/O33 E1 (io), H5 I/O41 F1 (io), H6 I/O53 G5 (io), H7 I/O57 H1 (io), H8 I/O66 I2 (io), H9 I/O76 J4 (io), H10 I/O77 J5 (io), H11 I/O78 J6 (io), H12 I/O79 J7 (io), J1 I/O36 E4 (io), J2 I/O34 E2 (io), J3 I/O32 E0 (io), J4 I/O44 F4 (io), J5 GBCLK2 (in), J6 I/O49 G1 (io), J7 VCC (power), J8 I/O59 H3 (io), J9 I/O69 I5 (io), J10 VCC (power), J11 I/O65 I1 (io), J12 I/O64 I0 (io), K1 TMS (in), K2 TCK (in), K3 I/O45 F5 (io), K4 I6 (in), K5 VCC (power), K6 I/O48 G0 (io), K7 I/O52 G4 (io), K8 GND (power), K9 I/O60 H4 (io), K10 I/O70 I6 (io), K11 I/O67 I3 (io), K12 I/O68 I4 (io), L1 GND (power), L2 I/O46 F6 (io), L3 I/O42 F2 (io), L4 I/O40 F0 (io), L5 GND (power), L6 I9 (in), L7 I/O51 G3 (io), L8 I/O55 G7 (io), L9 I/O58 H2 (io), L10 I/O62 H6 (io), L11 I/O71 I7 (io), L12 GND (power), M1 GND (power), M2 I/O47 F7 (io), M3 I/O43 F3 (io), M4 I5 (in), M5 GBCLK1 (in), M6 I8 (in), M7 I/O50 G2 (io), M8 I/O54 G6 (io), M9 I/O56 H0 (io), M10 I/O61 H5 (io), M11 I/O63 H7 (io), M12 GND (power)

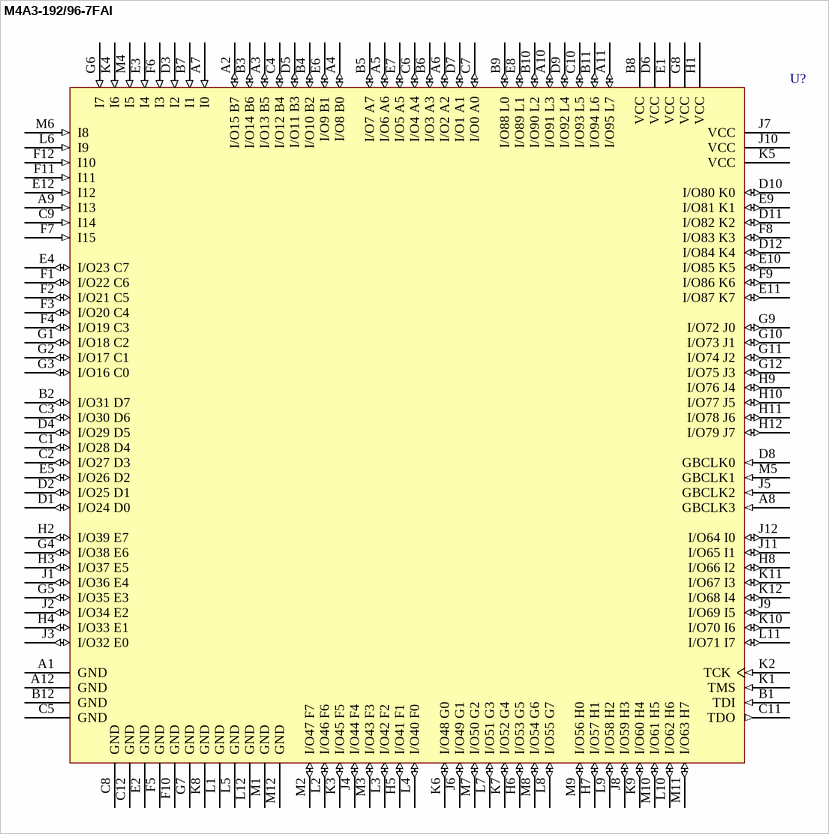
[diagram p39: symbol M4A3-192/96-7FAI]

## M4A3-192/96-7FAI
designator U?
High-Performance EE CMOS In-System Programmable Logic; Published: 17-Jul-2002; LatestRevisionDate: 13-Apr-2006; LatestRevisionNote: IPC-7351 Footprint Added.; DatasheetVersion: Feb-2001; PackageVersion: pkg_32, Aug-2005; PackageReference: fpBGA144; Publisher: Altium Limited; PackageDescription: 144-Ball Fine Pitch Ball Grid Array (fpBGA144); Code_IPC: BGA100P12X12-144; ComponentLink1Description: Manufacturer Link; ComponentLink1URL: http://www.latticesemi.com/products/mature/index.cfm; ComponentLink2Description: Datasheet; ComponentLink2URL: http://www.latticesemi.com/account/_download.cfm?AMID=1344
footprint fpBGA144 (BGA, 144-Leads, Body 13x13mm, Pitch 1mm)
3D model M4A3-fpBGA144 (144-Ball Fine Pitch Ball Grid Array (fpBGA144))
pins: A1 GND (power), A2 I/O15 B7 (io), A3 I/O13 B5 (io), A4 I/O8 B0 (io), A5 I/O6 A6 (io), A6 I/O2 A2 (io), A7 I0 (in), A8 GBCLK3 (in), A9 I13 (in), A10 I/O91 L3 (io), A11 I/O95 L7 (io), A12 GND (power), B1 TDI (in), B2 I/O31 D7 (io), B3 I/O14 B6 (io), B4 I/O10 B2 (io), B5 I/O7 A7 (io), B6 I/O3 A3 (io), B7 I1 (in), B8 VCC (power), B9 I/O88 L0 (io), B10 I/O90 L2 (io), B11 I/O94 L6 (io), B12 GND (power), C1 I/O28 D4 (io), C2 I/O27 D3 (io), C3 I/O30 D6 (io), C4 I/O12 B4 (io), C5 GND (power), C6 I/O4 A4 (io), C7 I/O0 A0 (io), C8 GND (power), C9 I14 (in), C10 I/O93 L5 (io), C11 TDO (out), C12 GND (power), D1 I/O24 D0 (io), D2 I/O25 D1 (io), D3 I2 (in), D4 I/O29 D5 (io), D5 I/O11 B3 (io), D6 VCC (power), D7 I/O1 A1 (io), D8 GBCLK0 (in), D9 I/O92 L4 (io), D10 I/O80 K0 (io), D11 I/O82 K2 (io), D12 I/O84 K4 (io), E1 VCC (power), E2 GND (power), E3 I4 (in), E4 I/O23 C7 (io), E5 I/O26 D2 (io), E6 I/O9 B1 (io), E7 I/O5 A5 (io), E8 I/O89 L1 (io), E9 I/O81 K1 (io), E10 I/O85 K5 (io), E11 I/O87 K7 (io), E12 I12 (in), F1 I/O22 C6 (io), F2 I/O21 C5 (io), F3 I/O20 C4 (io), F4 I/O19 C3 (io), F5 GND (power), F6 I3 (in), F7 I15 (in), F8 I/O83 K3 (io), F9 I/O86 K6 (io), F10 GND (power), F11 I11 (in), F12 I10 (in), G1 I/O18 C2 (io), G2 I/O17 C1 (io), G3 I/O16 C0 (io), G4 I/O38 E6 (io), G5 I/O35 E3 (io), G6 I7 (in), G7 GND (power), G8 VCC (power), G9 I/O72 J0 (io), G10 I/O73 J1 (io), G11 I/O74 J2 (io), G12 I/O75 J3 (io), H1 VCC (power), H2 I/O39 E7 (io), H3 I/O37 E5 (io), H4 I/O33 E1 (io), H5 I/O41 F1 (io), H6 I/O53 G5 (io), H7 I/O57 H1 (io), H8 I/O66 I2 (io), H9 I/O76 J4 (io), H10 I/O77 J5 (io), H11 I/O78 J6 (io), H12 I/O79 J7 (io), J1 I/O36 E4 (io), J2 I/O34 E2 (io), J3 I/O32 E0 (io), J4 I/O44 F4 (io), J5 GBCLK2 (in), J6 I/O49 G1 (io), J7 VCC (power), J8 I/O59 H3 (io), J9 I/O69 I5 (io), J10 VCC (power), J11 I/O65 I1 (io), J12 I/O64 I0 (io), K1 TMS (in), K2 TCK (in), K3 I/O45 F5 (io), K4 I6 (in), K5 VCC (power), K6 I/O48 G0 (io), K7 I/O52 G4 (io), K8 GND (power), K9 I/O60 H4 (io), K10 I/O70 I6 (io), K11 I/O67 I3 (io), K12 I/O68 I4 (io), L1 GND (power), L2 I/O46 F6 (io), L3 I/O42 F2 (io), L4 I/O40 F0 (io), L5 GND (power), L6 I9 (in), L7 I/O51 G3 (io), L8 I/O55 G7 (io), L9 I/O58 H2 (io), L10 I/O62 H6 (io), L11 I/O71 I7 (io), L12 GND (power), M1 GND (power), M2 I/O47 F7 (io), M3 I/O43 F3 (io), M4 I5 (in), M5 GBCLK1 (in), M6 I8 (in), M7 I/O50 G2 (io), M8 I/O54 G6 (io), M9 I/O56 H0 (io), M10 I/O61 H5 (io), M11 I/O63 H7 (io), M12 GND (power)

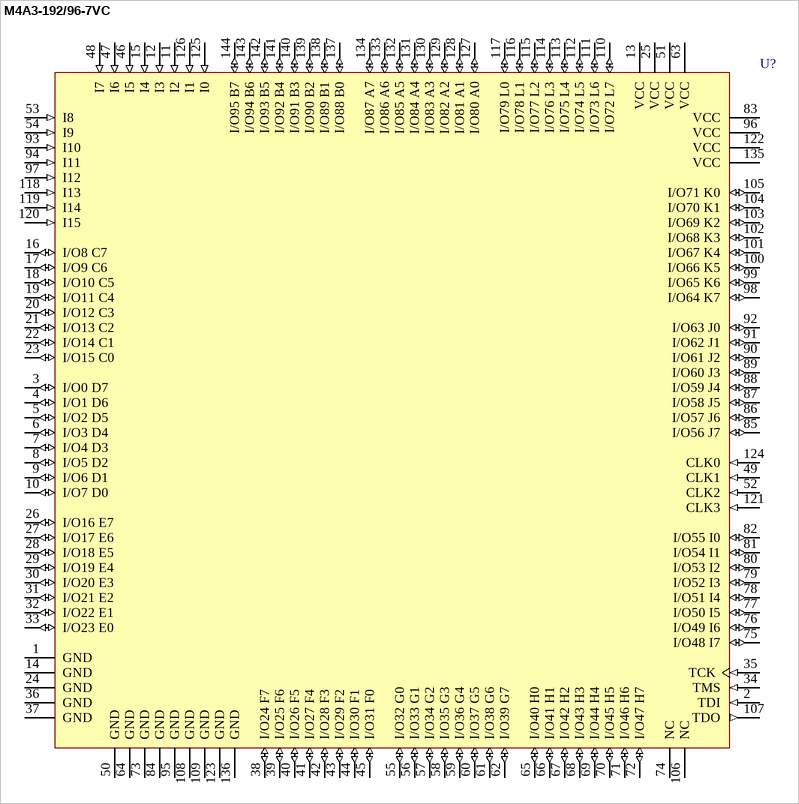
[diagram p40: symbol M4A3-192/96-7VC]

## M4A3-192/96-7VC
designator U?
High-Performance EE CMOS In-System Programmable Logic; Published: 17-Jul-2002; LatestRevisionDate: 13-Apr-2006; LatestRevisionNote: IPC-7351 Footprint Added.; DatasheetVersion: Feb-2001; PackageVersion: pkg_32, Aug-2005; PackageReference: TQFP144; Publisher: Altium Limited; PackageDescription: 144-Pin Thin Quad Flat Pack (TQFP144); Code_JEDEC: MS-026-BFB; ComponentLink1Description: Manufacturer Link; ComponentLink1URL: http://www.latticesemi.com/products/mature/index.cfm; ComponentLink2Description: Datasheet; ComponentLink2URL: http://www.latticesemi.com/account/_download.cfm?AMID=1344
footprint TQFP144_N (Thin QFP, 144-Leads, Body 20x20mm, Pitch 0.5mm, IPC Medium Density)
footprint TQFP144_L (Thin QFP, 144-Leads, Body 20x20mm, Pitch 0.5mm, IPC High Density)
footprint TQFP144_M (Thin QFP, 144-Leads, Body 20x20mm, Pitch 0.5mm, IPC Low Density)
3D model M4A3-TQFP144 (144-Pin Thin Quad Flat Pack (TQFP144))
pins: 1 GND (power), 2 TDI (in), 3 I/O0 D7 (io), 4 I/O1 D6 (io), 5 I/O2 D5 (io), 6 I/O3 D4 (io), 7 I/O4 D3 (io), 8 I/O5 D2 (io), 9 I/O6 D1 (io), 10 I/O7 D0 (io), 11 I2 (in), 12 I3 (in), 13 VCC (power), 14 GND (power), 15 I4 (in), 16 I/O8 C7 (io), 17 I/O9 C6 (io), 18 I/O10 C5 (io), 19 I/O11 C4 (io), 20 I/O12 C3 (io), 21 I/O13 C2 (io), 22 I/O14 C1 (io), 23 I/O15 C0 (io), 24 GND (power), 25 VCC (power), 26 I/O16 E7 (io), 27 I/O17 E6 (io), 28 I/O18 E5 (io), 29 I/O19 E4 (io), 30 I/O20 E3 (io), 31 I/O21 E2 (io), 32 I/O22 E1 (io), 33 I/O23 E0 (io), 34 TMS (in), 35 TCK (in), 36 GND (power), 37 GND (power), 38 I/O24 F7 (io), 39 I/O25 F6 (io), 40 I/O26 F5 (io), 41 I/O27 F4 (io), 42 I/O28 F3 (io), 43 I/O29 F2 (io), 44 I/O30 F1 (io), 45 I/O31 F0 (io), 46 I5 (in), 47 I6 (in), 48 I7 (in), 49 CLK1 (in), 50 GND (power), 51 VCC (power), 52 CLK2 (in), 53 I8 (in), 54 I9 (in), 55 I/O32 G0 (io), 56 I/O33 G1 (io), 57 I/O34 G2 (io), 58 I/O35 G3 (io), 59 I/O36 G4 (io), 60 I/O37 G5 (io), 61 I/O38 G6 (io), 62 I/O39 G7 (io), 63 VCC (power), 64 GND (power), 65 I/O40 H0 (io), 66 I/O41 H1 (io), 67 I/O42 H2 (io), 68 I/O43 H3 (io), 69 I/O44 H4 (io), 70 I/O45 H5 (io), 71 I/O46 H6 (io), 72 I/O47 H7 (io), 73 GND (power), 74 NC, 75 I/O48 I7 (io), 76 I/O49 I6 (io), 77 I/O50 I5 (io), 78 I/O51 I4 (io), 79 I/O52 I3 (io), 80 I/O53 I2 (io), 81 I/O54 I1 (io), 82 I/O55 I0 (io), 83 VCC (power), 84 GND (power), 85 I/O56 J7 (io), 86 I/O57 J6 (io), 87 I/O58 J5 (io), 88 I/O59 J4 (io), 89 I/O60 J3 (io), 90 I/O61 J2 (io), 91 I/O62 J1 (io), 92 I/O63 J0 (io), 93 I10 (in), 94 I11 (in), 95 GND (power), 96 VCC (power), 97 I12 (in), 98 I/O64 K7 (io), 99 I/O65 K6 (io), 100 I/O66 K5 (io), 101 I/O67 K4 (io), 102 I/O68 K3 (io), 103 I/O69 K2 (io), 104 I/O70 K1 (io), 105 I/O71 K0 (io), 106 NC, 107 TDO (out), 108 GND (power), 109 GND (power), 110 I/O72 L7 (io), 111 I/O73 L6 (io), 112 I/O74 L5 (io), 113 I/O75 L4 (io), 114 I/O76 L3 (io), 115 I/O77 L2 (io), 116 I/O78 L1 (io), 117 I/O79 L0 (io), 118 I13 (in), 119 I14 (in), 120 I15 (in), 121 CLK3 (in), 122 VCC (power), 123 GND (power), 124 CLK0 (in), 125 I0 (in), 126 I1 (in), 127 I/O80 A0 (io), 128 I/O81 A1 (io), 129 I/O82 A2 (io), 130 I/O83 A3 (io), 131 I/O84 A4 (io), 132 I/O85 A5 (io), 133 I/O86 A6 (io), 134 I/O87 A7 (io), 135 VCC (power), 136 GND (power), 137 I/O88 B0 (io), 138 I/O89 B1 (io), 139 I/O90 B2 (io), 140 I/O91 B3 (io), 141 I/O92 B4 (io), 142 I/O93 B5 (io), 143 I/O94 B6 (io), 144 I/O95 B7 (io)

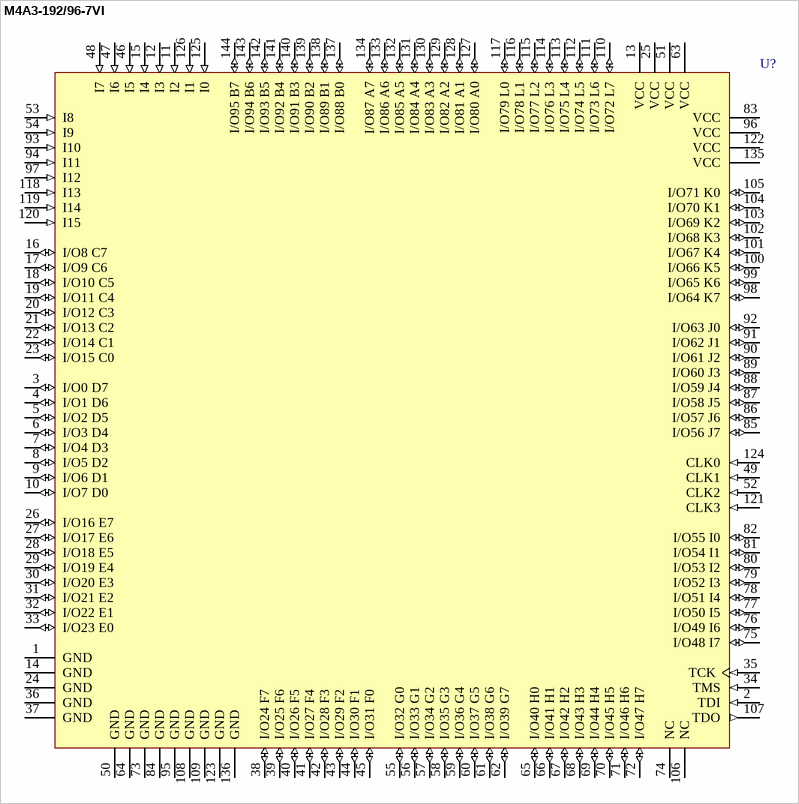
[diagram p41: symbol M4A3-192/96-7VI]

## M4A3-192/96-7VI
designator U?
High-Performance EE CMOS In-System Programmable Logic; Published: 17-Jul-2002; LatestRevisionDate: 13-Apr-2006; LatestRevisionNote: IPC-7351 Footprint Added.; DatasheetVersion: Feb-2001; PackageVersion: pkg_32, Aug-2005; PackageReference: TQFP144; Publisher: Altium Limited; PackageDescription: 144-Pin Thin Quad Flat Pack (TQFP144); Code_JEDEC: MS-026-BFB; ComponentLink1Description: Manufacturer Link; ComponentLink1URL: http://www.latticesemi.com/products/mature/index.cfm; ComponentLink2Description: Datasheet; ComponentLink2URL: http://www.latticesemi.com/account/_download.cfm?AMID=1344
footprint TQFP144_N (Thin QFP, 144-Leads, Body 20x20mm, Pitch 0.5mm, IPC Medium Density)
footprint TQFP144_L (Thin QFP, 144-Leads, Body 20x20mm, Pitch 0.5mm, IPC High Density)
footprint TQFP144_M (Thin QFP, 144-Leads, Body 20x20mm, Pitch 0.5mm, IPC Low Density)
3D model M4A3-TQFP144 (144-Pin Thin Quad Flat Pack (TQFP144))
pins: 1 GND (power), 2 TDI (in), 3 I/O0 D7 (io), 4 I/O1 D6 (io), 5 I/O2 D5 (io), 6 I/O3 D4 (io), 7 I/O4 D3 (io), 8 I/O5 D2 (io), 9 I/O6 D1 (io), 10 I/O7 D0 (io), 11 I2 (in), 12 I3 (in), 13 VCC (power), 14 GND (power), 15 I4 (in), 16 I/O8 C7 (io), 17 I/O9 C6 (io), 18 I/O10 C5 (io), 19 I/O11 C4 (io), 20 I/O12 C3 (io), 21 I/O13 C2 (io), 22 I/O14 C1 (io), 23 I/O15 C0 (io), 24 GND (power), 25 VCC (power), 26 I/O16 E7 (io), 27 I/O17 E6 (io), 28 I/O18 E5 (io), 29 I/O19 E4 (io), 30 I/O20 E3 (io), 31 I/O21 E2 (io), 32 I/O22 E1 (io), 33 I/O23 E0 (io), 34 TMS (in), 35 TCK (in), 36 GND (power), 37 GND (power), 38 I/O24 F7 (io), 39 I/O25 F6 (io), 40 I/O26 F5 (io), 41 I/O27 F4 (io), 42 I/O28 F3 (io), 43 I/O29 F2 (io), 44 I/O30 F1 (io), 45 I/O31 F0 (io), 46 I5 (in), 47 I6 (in), 48 I7 (in), 49 CLK1 (in), 50 GND (power), 51 VCC (power), 52 CLK2 (in), 53 I8 (in), 54 I9 (in), 55 I/O32 G0 (io), 56 I/O33 G1 (io), 57 I/O34 G2 (io), 58 I/O35 G3 (io), 59 I/O36 G4 (io), 60 I/O37 G5 (io), 61 I/O38 G6 (io), 62 I/O39 G7 (io), 63 VCC (power), 64 GND (power), 65 I/O40 H0 (io), 66 I/O41 H1 (io), 67 I/O42 H2 (io), 68 I/O43 H3 (io), 69 I/O44 H4 (io), 70 I/O45 H5 (io), 71 I/O46 H6 (io), 72 I/O47 H7 (io), 73 GND (power), 74 NC, 75 I/O48 I7 (io), 76 I/O49 I6 (io), 77 I/O50 I5 (io), 78 I/O51 I4 (io), 79 I/O52 I3 (io), 80 I/O53 I2 (io), 81 I/O54 I1 (io), 82 I/O55 I0 (io), 83 VCC (power), 84 GND (power), 85 I/O56 J7 (io), 86 I/O57 J6 (io), 87 I/O58 J5 (io), 88 I/O59 J4 (io), 89 I/O60 J3 (io), 90 I/O61 J2 (io), 91 I/O62 J1 (io), 92 I/O63 J0 (io), 93 I10 (in), 94 I11 (in), 95 GND (power), 96 VCC (power), 97 I12 (in), 98 I/O64 K7 (io), 99 I/O65 K6 (io), 100 I/O66 K5 (io), 101 I/O67 K4 (io), 102 I/O68 K3 (io), 103 I/O69 K2 (io), 104 I/O70 K1 (io), 105 I/O71 K0 (io), 106 NC, 107 TDO (out), 108 GND (power), 109 GND (power), 110 I/O72 L7 (io), 111 I/O73 L6 (io), 112 I/O74 L5 (io), 113 I/O75 L4 (io), 114 I/O76 L3 (io), 115 I/O77 L2 (io), 116 I/O78 L1 (io), 117 I/O79 L0 (io), 118 I13 (in), 119 I14 (in), 120 I15 (in), 121 CLK3 (in), 122 VCC (power), 123 GND (power), 124 CLK0 (in), 125 I0 (in), 126 I1 (in), 127 I/O80 A0 (io), 128 I/O81 A1 (io), 129 I/O82 A2 (io), 130 I/O83 A3 (io), 131 I/O84 A4 (io), 132 I/O85 A5 (io), 133 I/O86 A6 (io), 134 I/O87 A7 (io), 135 VCC (power), 136 GND (power), 137 I/O88 B0 (io), 138 I/O89 B1 (io), 139 I/O90 B2 (io), 140 I/O91 B3 (io), 141 I/O92 B4 (io), 142 I/O93 B5 (io), 143 I/O94 B6 (io), 144 I/O95 B7 (io)

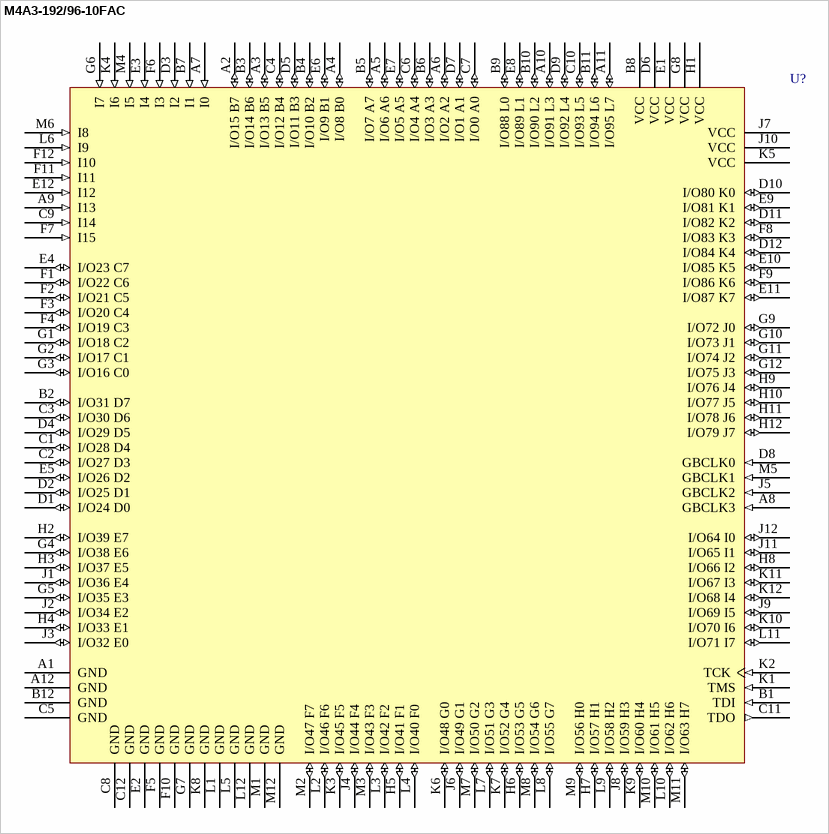
[diagram p42: symbol M4A3-192/96-10FAC]

## M4A3-192/96-10FAC
designator U?
High-Performance EE CMOS In-System Programmable Logic; Published: 17-Jul-2002; LatestRevisionDate: 13-Apr-2006; LatestRevisionNote: IPC-7351 Footprint Added.; DatasheetVersion: Feb-2001; PackageVersion: pkg_32, Aug-2005; PackageReference: fpBGA144; Publisher: Altium Limited; PackageDescription: 144-Ball Fine Pitch Ball Grid Array (fpBGA144); Code_IPC: BGA100P12X12-144; ComponentLink1Description: Manufacturer Link; ComponentLink1URL: http://www.latticesemi.com/products/mature/index.cfm; ComponentLink2Description: Datasheet; ComponentLink2URL: http://www.latticesemi.com/account/_download.cfm?AMID=1344
footprint fpBGA144 (BGA, 144-Leads, Body 13x13mm, Pitch 1mm)
3D model M4A3-fpBGA144 (144-Ball Fine Pitch Ball Grid Array (fpBGA144))
pins: A1 GND (power), A2 I/O15 B7 (io), A3 I/O13 B5 (io), A4 I/O8 B0 (io), A5 I/O6 A6 (io), A6 I/O2 A2 (io), A7 I0 (in), A8 GBCLK3 (in), A9 I13 (in), A10 I/O91 L3 (io), A11 I/O95 L7 (io), A12 GND (power), B1 TDI (in), B2 I/O31 D7 (io), B3 I/O14 B6 (io), B4 I/O10 B2 (io), B5 I/O7 A7 (io), B6 I/O3 A3 (io), B7 I1 (in), B8 VCC (power), B9 I/O88 L0 (io), B10 I/O90 L2 (io), B11 I/O94 L6 (io), B12 GND (power), C1 I/O28 D4 (io), C2 I/O27 D3 (io), C3 I/O30 D6 (io), C4 I/O12 B4 (io), C5 GND (power), C6 I/O4 A4 (io), C7 I/O0 A0 (io), C8 GND (power), C9 I14 (in), C10 I/O93 L5 (io), C11 TDO (out), C12 GND (power), D1 I/O24 D0 (io), D2 I/O25 D1 (io), D3 I2 (in), D4 I/O29 D5 (io), D5 I/O11 B3 (io), D6 VCC (power), D7 I/O1 A1 (io), D8 GBCLK0 (in), D9 I/O92 L4 (io), D10 I/O80 K0 (io), D11 I/O82 K2 (io), D12 I/O84 K4 (io), E1 VCC (power), E2 GND (power), E3 I4 (in), E4 I/O23 C7 (io), E5 I/O26 D2 (io), E6 I/O9 B1 (io), E7 I/O5 A5 (io), E8 I/O89 L1 (io), E9 I/O81 K1 (io), E10 I/O85 K5 (io), E11 I/O87 K7 (io), E12 I12 (in), F1 I/O22 C6 (io), F2 I/O21 C5 (io), F3 I/O20 C4 (io), F4 I/O19 C3 (io), F5 GND (power), F6 I3 (in), F7 I15 (in), F8 I/O83 K3 (io), F9 I/O86 K6 (io), F10 GND (power), F11 I11 (in), F12 I10 (in), G1 I/O18 C2 (io), G2 I/O17 C1 (io), G3 I/O16 C0 (io), G4 I/O38 E6 (io), G5 I/O35 E3 (io), G6 I7 (in), G7 GND (power), G8 VCC (power), G9 I/O72 J0 (io), G10 I/O73 J1 (io), G11 I/O74 J2 (io), G12 I/O75 J3 (io), H1 VCC (power), H2 I/O39 E7 (io), H3 I/O37 E5 (io), H4 I/O33 E1 (io), H5 I/O41 F1 (io), H6 I/O53 G5 (io), H7 I/O57 H1 (io), H8 I/O66 I2 (io), H9 I/O76 J4 (io), H10 I/O77 J5 (io), H11 I/O78 J6 (io), H12 I/O79 J7 (io), J1 I/O36 E4 (io), J2 I/O34 E2 (io), J3 I/O32 E0 (io), J4 I/O44 F4 (io), J5 GBCLK2 (in), J6 I/O49 G1 (io), J7 VCC (power), J8 I/O59 H3 (io), J9 I/O69 I5 (io), J10 VCC (power), J11 I/O65 I1 (io), J12 I/O64 I0 (io), K1 TMS (in), K2 TCK (in), K3 I/O45 F5 (io), K4 I6 (in), K5 VCC (power), K6 I/O48 G0 (io), K7 I/O52 G4 (io), K8 GND (power), K9 I/O60 H4 (io), K10 I/O70 I6 (io), K11 I/O67 I3 (io), K12 I/O68 I4 (io), L1 GND (power), L2 I/O46 F6 (io), L3 I/O42 F2 (io), L4 I/O40 F0 (io), L5 GND (power), L6 I9 (in), L7 I/O51 G3 (io), L8 I/O55 G7 (io), L9 I/O58 H2 (io), L10 I/O62 H6 (io), L11 I/O71 I7 (io), L12 GND (power), M1 GND (power), M2 I/O47 F7 (io), M3 I/O43 F3 (io), M4 I5 (in), M5 GBCLK1 (in), M6 I8 (in), M7 I/O50 G2 (io), M8 I/O54 G6 (io), M9 I/O56 H0 (io), M10 I/O61 H5 (io), M11 I/O63 H7 (io), M12 GND (power)

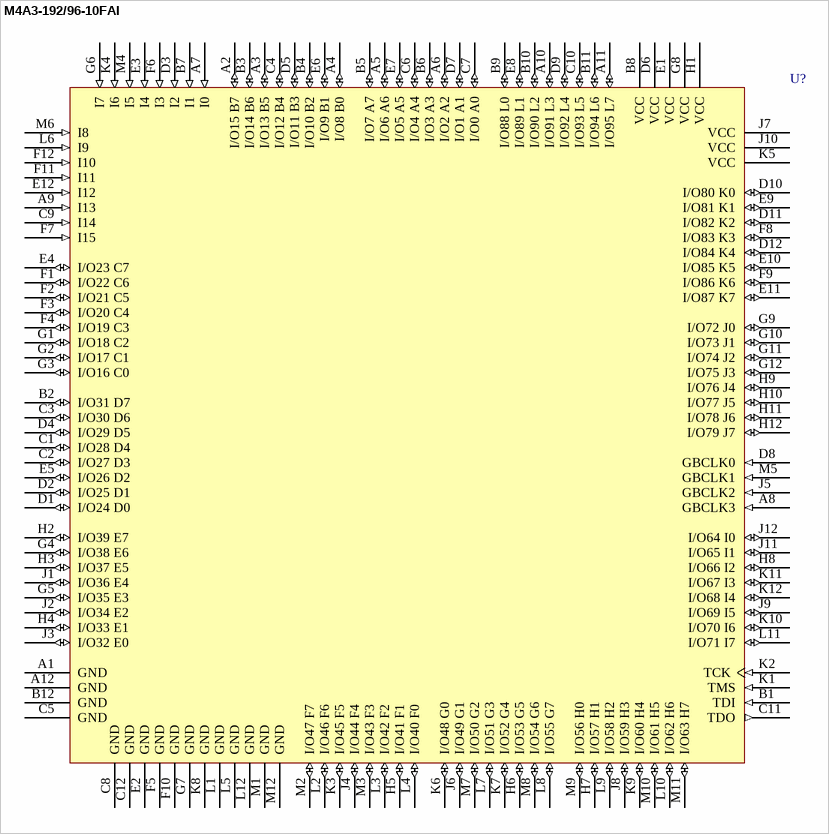
[diagram p43: symbol M4A3-192/96-10FAI]

## M4A3-192/96-10FAI
designator U?
High-Performance EE CMOS In-System Programmable Logic; Published: 17-Jul-2002; LatestRevisionDate: 13-Apr-2006; LatestRevisionNote: IPC-7351 Footprint Added.; DatasheetVersion: Feb-2001; PackageVersion: pkg_32, Aug-2005; PackageReference: fpBGA144; Publisher: Altium Limited; PackageDescription: 144-Ball Fine Pitch Ball Grid Array (fpBGA144); Code_IPC: BGA100P12X12-144; ComponentLink1Description: Manufacturer Link; ComponentLink1URL: http://www.latticesemi.com/products/mature/index.cfm; ComponentLink2Description: Datasheet; ComponentLink2URL: http://www.latticesemi.com/account/_download.cfm?AMID=1344
footprint fpBGA144 (BGA, 144-Leads, Body 13x13mm, Pitch 1mm)
3D model M4A3-fpBGA144 (144-Ball Fine Pitch Ball Grid Array (fpBGA144))
pins: A1 GND (power), A2 I/O15 B7 (io), A3 I/O13 B5 (io), A4 I/O8 B0 (io), A5 I/O6 A6 (io), A6 I/O2 A2 (io), A7 I0 (in), A8 GBCLK3 (in), A9 I13 (in), A10 I/O91 L3 (io), A11 I/O95 L7 (io), A12 GND (power), B1 TDI (in), B2 I/O31 D7 (io), B3 I/O14 B6 (io), B4 I/O10 B2 (io), B5 I/O7 A7 (io), B6 I/O3 A3 (io), B7 I1 (in), B8 VCC (power), B9 I/O88 L0 (io), B10 I/O90 L2 (io), B11 I/O94 L6 (io), B12 GND (power), C1 I/O28 D4 (io), C2 I/O27 D3 (io), C3 I/O30 D6 (io), C4 I/O12 B4 (io), C5 GND (power), C6 I/O4 A4 (io), C7 I/O0 A0 (io), C8 GND (power), C9 I14 (in), C10 I/O93 L5 (io), C11 TDO (out), C12 GND (power), D1 I/O24 D0 (io), D2 I/O25 D1 (io), D3 I2 (in), D4 I/O29 D5 (io), D5 I/O11 B3 (io), D6 VCC (power), D7 I/O1 A1 (io), D8 GBCLK0 (in), D9 I/O92 L4 (io), D10 I/O80 K0 (io), D11 I/O82 K2 (io), D12 I/O84 K4 (io), E1 VCC (power), E2 GND (power), E3 I4 (in), E4 I/O23 C7 (io), E5 I/O26 D2 (io), E6 I/O9 B1 (io), E7 I/O5 A5 (io), E8 I/O89 L1 (io), E9 I/O81 K1 (io), E10 I/O85 K5 (io), E11 I/O87 K7 (io), E12 I12 (in), F1 I/O22 C6 (io), F2 I/O21 C5 (io), F3 I/O20 C4 (io), F4 I/O19 C3 (io), F5 GND (power), F6 I3 (in), F7 I15 (in), F8 I/O83 K3 (io), F9 I/O86 K6 (io), F10 GND (power), F11 I11 (in), F12 I10 (in), G1 I/O18 C2 (io), G2 I/O17 C1 (io), G3 I/O16 C0 (io), G4 I/O38 E6 (io), G5 I/O35 E3 (io), G6 I7 (in), G7 GND (power), G8 VCC (power), G9 I/O72 J0 (io), G10 I/O73 J1 (io), G11 I/O74 J2 (io), G12 I/O75 J3 (io), H1 VCC (power), H2 I/O39 E7 (io), H3 I/O37 E5 (io), H4 I/O33 E1 (io), H5 I/O41 F1 (io), H6 I/O53 G5 (io), H7 I/O57 H1 (io), H8 I/O66 I2 (io), H9 I/O76 J4 (io), H10 I/O77 J5 (io), H11 I/O78 J6 (io), H12 I/O79 J7 (io), J1 I/O36 E4 (io), J2 I/O34 E2 (io), J3 I/O32 E0 (io), J4 I/O44 F4 (io), J5 GBCLK2 (in), J6 I/O49 G1 (io), J7 VCC (power), J8 I/O59 H3 (io), J9 I/O69 I5 (io), J10 VCC (power), J11 I/O65 I1 (io), J12 I/O64 I0 (io), K1 TMS (in), K2 TCK (in), K3 I/O45 F5 (io), K4 I6 (in), K5 VCC (power), K6 I/O48 G0 (io), K7 I/O52 G4 (io), K8 GND (power), K9 I/O60 H4 (io), K10 I/O70 I6 (io), K11 I/O67 I3 (io), K12 I/O68 I4 (io), L1 GND (power), L2 I/O46 F6 (io), L3 I/O42 F2 (io), L4 I/O40 F0 (io), L5 GND (power), L6 I9 (in), L7 I/O51 G3 (io), L8 I/O55 G7 (io), L9 I/O58 H2 (io), L10 I/O62 H6 (io), L11 I/O71 I7 (io), L12 GND (power), M1 GND (power), M2 I/O47 F7 (io), M3 I/O43 F3 (io), M4 I5 (in), M5 GBCLK1 (in), M6 I8 (in), M7 I/O50 G2 (io), M8 I/O54 G6 (io), M9 I/O56 H0 (io), M10 I/O61 H5 (io), M11 I/O63 H7 (io), M12 GND (power)

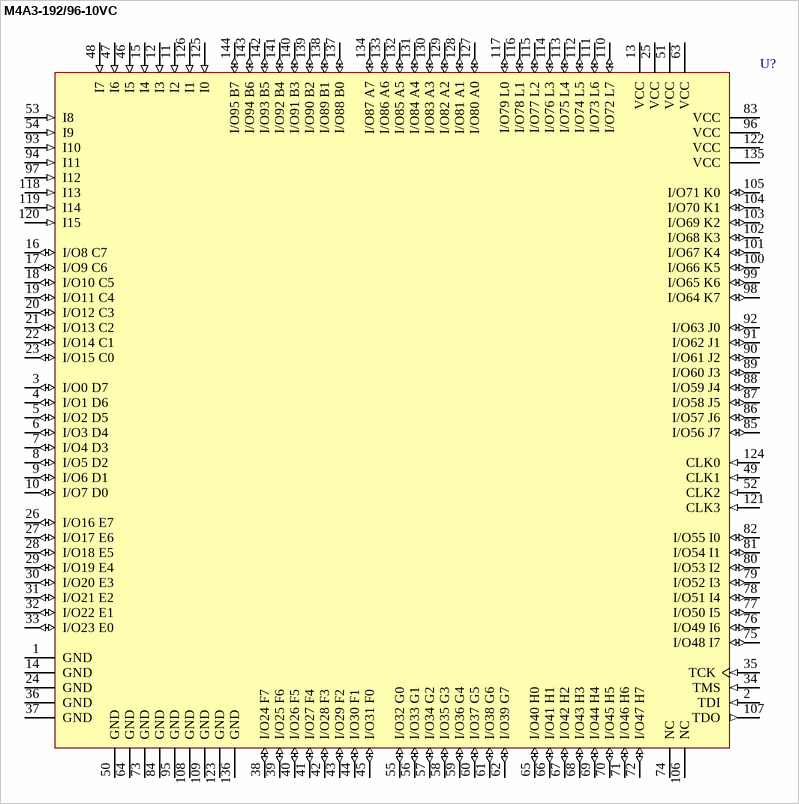
[diagram p44: symbol M4A3-192/96-10VC]

## M4A3-192/96-10VC
designator U?
High-Performance EE CMOS In-System Programmable Logic; Published: 17-Jul-2002; LatestRevisionDate: 13-Apr-2006; LatestRevisionNote: IPC-7351 Footprint Added.; DatasheetVersion: Feb-2001; PackageVersion: pkg_32, Aug-2005; PackageReference: TQFP144; Publisher: Altium Limited; PackageDescription: 144-Pin Thin Quad Flat Pack (TQFP144); Code_JEDEC: MS-026-BFB; ComponentLink1Description: Manufacturer Link; ComponentLink1URL: http://www.latticesemi.com/products/mature/index.cfm; ComponentLink2Description: Datasheet; ComponentLink2URL: http://www.latticesemi.com/account/_download.cfm?AMID=1344
footprint TQFP144_N (Thin QFP, 144-Leads, Body 20x20mm, Pitch 0.5mm, IPC Medium Density)
footprint TQFP144_L (Thin QFP, 144-Leads, Body 20x20mm, Pitch 0.5mm, IPC High Density)
footprint TQFP144_M (Thin QFP, 144-Leads, Body 20x20mm, Pitch 0.5mm, IPC Low Density)
3D model M4A3-TQFP144 (144-Pin Thin Quad Flat Pack (TQFP144))
pins: 1 GND (power), 2 TDI (in), 3 I/O0 D7 (io), 4 I/O1 D6 (io), 5 I/O2 D5 (io), 6 I/O3 D4 (io), 7 I/O4 D3 (io), 8 I/O5 D2 (io), 9 I/O6 D1 (io), 10 I/O7 D0 (io), 11 I2 (in), 12 I3 (in), 13 VCC (power), 14 GND (power), 15 I4 (in), 16 I/O8 C7 (io), 17 I/O9 C6 (io), 18 I/O10 C5 (io), 19 I/O11 C4 (io), 20 I/O12 C3 (io), 21 I/O13 C2 (io), 22 I/O14 C1 (io), 23 I/O15 C0 (io), 24 GND (power), 25 VCC (power), 26 I/O16 E7 (io), 27 I/O17 E6 (io), 28 I/O18 E5 (io), 29 I/O19 E4 (io), 30 I/O20 E3 (io), 31 I/O21 E2 (io), 32 I/O22 E1 (io), 33 I/O23 E0 (io), 34 TMS (in), 35 TCK (in), 36 GND (power), 37 GND (power), 38 I/O24 F7 (io), 39 I/O25 F6 (io), 40 I/O26 F5 (io), 41 I/O27 F4 (io), 42 I/O28 F3 (io), 43 I/O29 F2 (io), 44 I/O30 F1 (io), 45 I/O31 F0 (io), 46 I5 (in), 47 I6 (in), 48 I7 (in), 49 CLK1 (in), 50 GND (power), 51 VCC (power), 52 CLK2 (in), 53 I8 (in), 54 I9 (in), 55 I/O32 G0 (io), 56 I/O33 G1 (io), 57 I/O34 G2 (io), 58 I/O35 G3 (io), 59 I/O36 G4 (io), 60 I/O37 G5 (io), 61 I/O38 G6 (io), 62 I/O39 G7 (io), 63 VCC (power), 64 GND (power), 65 I/O40 H0 (io), 66 I/O41 H1 (io), 67 I/O42 H2 (io), 68 I/O43 H3 (io), 69 I/O44 H4 (io), 70 I/O45 H5 (io), 71 I/O46 H6 (io), 72 I/O47 H7 (io), 73 GND (power), 74 NC, 75 I/O48 I7 (io), 76 I/O49 I6 (io), 77 I/O50 I5 (io), 78 I/O51 I4 (io), 79 I/O52 I3 (io), 80 I/O53 I2 (io), 81 I/O54 I1 (io), 82 I/O55 I0 (io), 83 VCC (power), 84 GND (power), 85 I/O56 J7 (io), 86 I/O57 J6 (io), 87 I/O58 J5 (io), 88 I/O59 J4 (io), 89 I/O60 J3 (io), 90 I/O61 J2 (io), 91 I/O62 J1 (io), 92 I/O63 J0 (io), 93 I10 (in), 94 I11 (in), 95 GND (power), 96 VCC (power), 97 I12 (in), 98 I/O64 K7 (io), 99 I/O65 K6 (io), 100 I/O66 K5 (io), 101 I/O67 K4 (io), 102 I/O68 K3 (io), 103 I/O69 K2 (io), 104 I/O70 K1 (io), 105 I/O71 K0 (io), 106 NC, 107 TDO (out), 108 GND (power), 109 GND (power), 110 I/O72 L7 (io), 111 I/O73 L6 (io), 112 I/O74 L5 (io), 113 I/O75 L4 (io), 114 I/O76 L3 (io), 115 I/O77 L2 (io), 116 I/O78 L1 (io), 117 I/O79 L0 (io), 118 I13 (in), 119 I14 (in), 120 I15 (in), 121 CLK3 (in), 122 VCC (power), 123 GND (power), 124 CLK0 (in), 125 I0 (in), 126 I1 (in), 127 I/O80 A0 (io), 128 I/O81 A1 (io), 129 I/O82 A2 (io), 130 I/O83 A3 (io), 131 I/O84 A4 (io), 132 I/O85 A5 (io), 133 I/O86 A6 (io), 134 I/O87 A7 (io), 135 VCC (power), 136 GND (power), 137 I/O88 B0 (io), 138 I/O89 B1 (io), 139 I/O90 B2 (io), 140 I/O91 B3 (io), 141 I/O92 B4 (io), 142 I/O93 B5 (io), 143 I/O94 B6 (io), 144 I/O95 B7 (io)

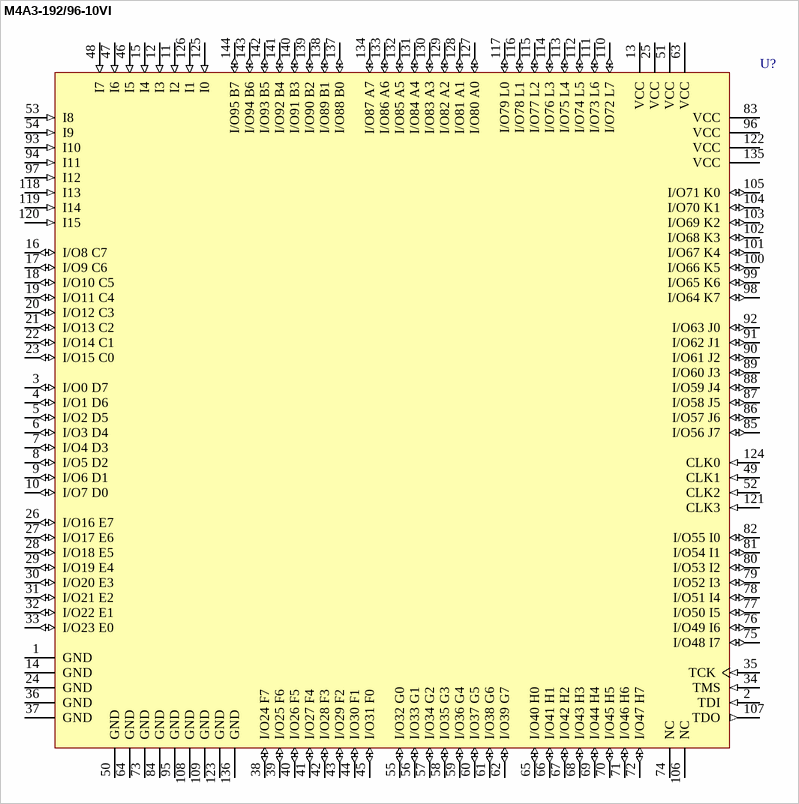
[diagram p45: symbol M4A3-192/96-10VI]

## M4A3-192/96-10VI
designator U?
High-Performance EE CMOS In-System Programmable Logic; Published: 17-Jul-2002; LatestRevisionDate: 13-Apr-2006; LatestRevisionNote: IPC-7351 Footprint Added.; DatasheetVersion: Feb-2001; PackageVersion: pkg_32, Aug-2005; PackageReference: TQFP144; Publisher: Altium Limited; PackageDescription: 144-Pin Thin Quad Flat Pack (TQFP144); Code_JEDEC: MS-026-BFB; ComponentLink1Description: Manufacturer Link; ComponentLink1URL: http://www.latticesemi.com/products/mature/index.cfm; ComponentLink2Description: Datasheet; ComponentLink2URL: http://www.latticesemi.com/account/_download.cfm?AMID=1344
footprint TQFP144_N (Thin QFP, 144-Leads, Body 20x20mm, Pitch 0.5mm, IPC Medium Density)
footprint TQFP144_L (Thin QFP, 144-Leads, Body 20x20mm, Pitch 0.5mm, IPC High Density)
footprint TQFP144_M (Thin QFP, 144-Leads, Body 20x20mm, Pitch 0.5mm, IPC Low Density)
3D model M4A3-TQFP144 (144-Pin Thin Quad Flat Pack (TQFP144))
pins: 1 GND (power), 2 TDI (in), 3 I/O0 D7 (io), 4 I/O1 D6 (io), 5 I/O2 D5 (io), 6 I/O3 D4 (io), 7 I/O4 D3 (io), 8 I/O5 D2 (io), 9 I/O6 D1 (io), 10 I/O7 D0 (io), 11 I2 (in), 12 I3 (in), 13 VCC (power), 14 GND (power), 15 I4 (in), 16 I/O8 C7 (io), 17 I/O9 C6 (io), 18 I/O10 C5 (io), 19 I/O11 C4 (io), 20 I/O12 C3 (io), 21 I/O13 C2 (io), 22 I/O14 C1 (io), 23 I/O15 C0 (io), 24 GND (power), 25 VCC (power), 26 I/O16 E7 (io), 27 I/O17 E6 (io), 28 I/O18 E5 (io), 29 I/O19 E4 (io), 30 I/O20 E3 (io), 31 I/O21 E2 (io), 32 I/O22 E1 (io), 33 I/O23 E0 (io), 34 TMS (in), 35 TCK (in), 36 GND (power), 37 GND (power), 38 I/O24 F7 (io), 39 I/O25 F6 (io), 40 I/O26 F5 (io), 41 I/O27 F4 (io), 42 I/O28 F3 (io), 43 I/O29 F2 (io), 44 I/O30 F1 (io), 45 I/O31 F0 (io), 46 I5 (in), 47 I6 (in), 48 I7 (in), 49 CLK1 (in), 50 GND (power), 51 VCC (power), 52 CLK2 (in), 53 I8 (in), 54 I9 (in), 55 I/O32 G0 (io), 56 I/O33 G1 (io), 57 I/O34 G2 (io), 58 I/O35 G3 (io), 59 I/O36 G4 (io), 60 I/O37 G5 (io), 61 I/O38 G6 (io), 62 I/O39 G7 (io), 63 VCC (power), 64 GND (power), 65 I/O40 H0 (io), 66 I/O41 H1 (io), 67 I/O42 H2 (io), 68 I/O43 H3 (io), 69 I/O44 H4 (io), 70 I/O45 H5 (io), 71 I/O46 H6 (io), 72 I/O47 H7 (io), 73 GND (power), 74 NC, 75 I/O48 I7 (io), 76 I/O49 I6 (io), 77 I/O50 I5 (io), 78 I/O51 I4 (io), 79 I/O52 I3 (io), 80 I/O53 I2 (io), 81 I/O54 I1 (io), 82 I/O55 I0 (io), 83 VCC (power), 84 GND (power), 85 I/O56 J7 (io), 86 I/O57 J6 (io), 87 I/O58 J5 (io), 88 I/O59 J4 (io), 89 I/O60 J3 (io), 90 I/O61 J2 (io), 91 I/O62 J1 (io), 92 I/O63 J0 (io), 93 I10 (in), 94 I11 (in), 95 GND (power), 96 VCC (power), 97 I12 (in), 98 I/O64 K7 (io), 99 I/O65 K6 (io), 100 I/O66 K5 (io), 101 I/O67 K4 (io), 102 I/O68 K3 (io), 103 I/O69 K2 (io), 104 I/O70 K1 (io), 105 I/O71 K0 (io), 106 NC, 107 TDO (out), 108 GND (power), 109 GND (power), 110 I/O72 L7 (io), 111 I/O73 L6 (io), 112 I/O74 L5 (io), 113 I/O75 L4 (io), 114 I/O76 L3 (io), 115 I/O77 L2 (io), 116 I/O78 L1 (io), 117 I/O79 L0 (io), 118 I13 (in), 119 I14 (in), 120 I15 (in), 121 CLK3 (in), 122 VCC (power), 123 GND (power), 124 CLK0 (in), 125 I0 (in), 126 I1 (in), 127 I/O80 A0 (io), 128 I/O81 A1 (io), 129 I/O82 A2 (io), 130 I/O83 A3 (io), 131 I/O84 A4 (io), 132 I/O85 A5 (io), 133 I/O86 A6 (io), 134 I/O87 A7 (io), 135 VCC (power), 136 GND (power), 137 I/O88 B0 (io), 138 I/O89 B1 (io), 139 I/O90 B2 (io), 140 I/O91 B3 (io), 141 I/O92 B4 (io), 142 I/O93 B5 (io), 143 I/O94 B6 (io), 144 I/O95 B7 (io)

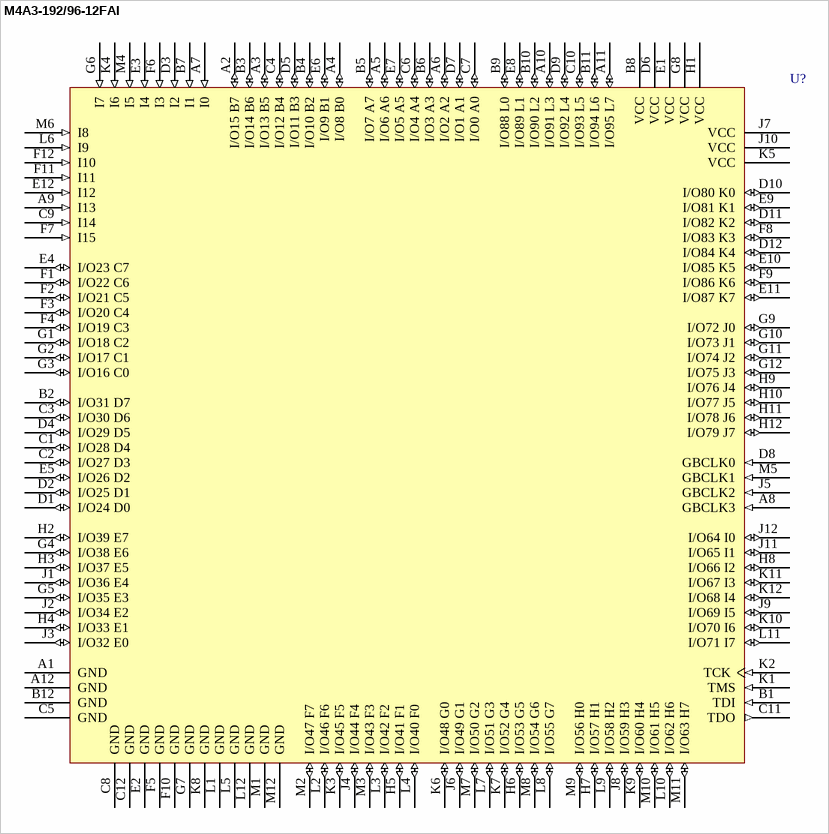
[diagram p46: symbol M4A3-192/96-12FAI]